# Altium integrated library Integrated_Library1.IntLib: 2483 symbols (part 3 of 13)
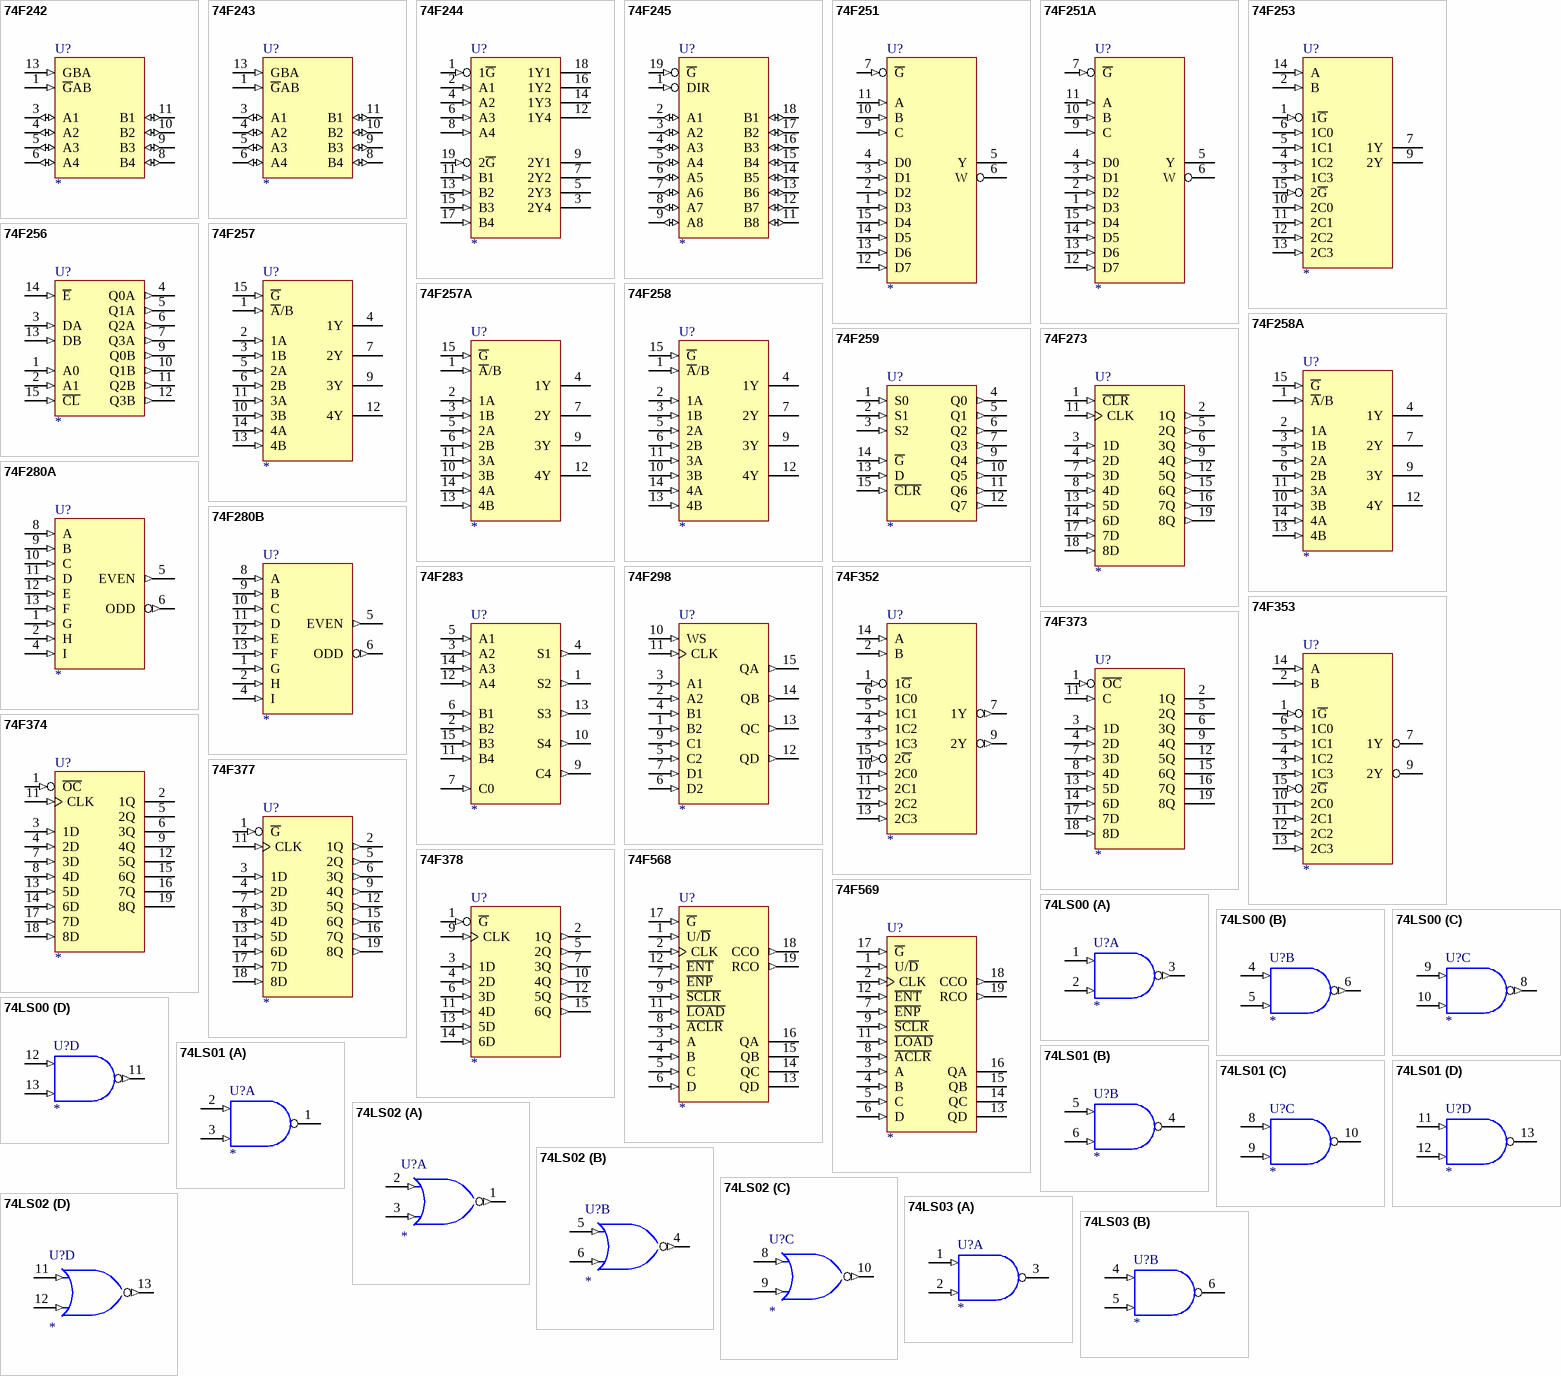
[diagram p110: symbols 74F242 to 74LS03]

## 74F568
designator U?
Synchronous 4-Bit Up/Down Decade Counter with 3-State Outputs
footprint DIP-20
simulation model 74F568 (SIMCODE)
pins: 1 U/~{D} (in), 2 CLK (in), 3 A (in), 4 B (in), 5 C (in), 6 D (in), 7 ~{ENP} (in), 8 ~{ACLR} (in), 9 ~{SCLR} (in), 10 GND (power) hidden to GND, 11 ~{LOAD} (in), 12 ~{ENT} (in), 13 QD (hiz), 14 QC (hiz), 15 QB (hiz), 16 QA (hiz), 17 ~{G} (in), 18 CCO (out), 19 RCO (out), 20 VCC (power) hidden to VCC
1 alternate drawing of the same symbol

## 74F569
designator U?
Synchronous 4-Bit Up/Down Binary Counter with 3-State Outputs
footprint DIP-20
simulation model 74F569 (SIMCODE)
pins: 1 U/~{D} (in), 2 CLK (in), 3 A (in), 4 B (in), 5 C (in), 6 D (in), 7 ~{ENP} (in), 8 ~{ACLR} (in), 9 ~{SCLR} (in), 10 GND (power) hidden to GND, 11 ~{LOAD} (in), 12 ~{ENT} (in), 13 QD (hiz), 14 QC (hiz), 15 QB (hiz), 16 QA (hiz), 17 ~{G} (in), 18 CCO (out), 19 RCO (out), 20 VCC (power) hidden to VCC
1 alternate drawing of the same symbol

## 74LS00
designator U?
Quad 2-Input Positive-NAND Gate
footprint DIP-14
simulation model 74LS00 (SIMCODE)
part A pins: 1 A (in), 2 B (in), 3 Y (out), 7 GND (power) hidden to GND, 14 VCC (power) hidden to VCC
part B pins: 4 A (in), 5 B (in), 6 Y (out), 7 GND (power) hidden to GND, 14 VCC (power) hidden to VCC
part C pins: 7 GND (power) hidden to GND, 8 Y (out), 9 A (in), 10 B (in), 14 VCC (power) hidden to VCC
part D pins: 7 GND (power) hidden to GND, 11 Y (out), 12 A (in), 13 B (in), 14 VCC (power) hidden to VCC
1 alternate drawing of the same symbol

## 74LS01
designator U?
Quad 2-Input Positive-NAND Gate with Open-Collector Output
footprint DIP-14
simulation model 74LS01 (SIMCODE)
part A pins: 1 Y (oc), 2 A (in), 3 B (in), 7 GND (power) hidden to GND, 14 VCC (power) hidden to VCC
part B pins: 4 Y (oc), 5 A (in), 6 B (in), 7 GND (power) hidden to GND, 14 VCC (power) hidden to VCC
part C pins: 7 GND (power) hidden to GND, 8 A (in), 9 B (in), 10 Y (oc), 14 VCC (power) hidden to VCC
part D pins: 7 GND (power) hidden to GND, 11 A (in), 12 B (in), 13 Y (oc), 14 VCC (power) hidden to VCC
1 alternate drawing of the same symbol

## 74LS02
designator U?
Quad 2-Input NOR Gate
footprint DIP-14
simulation model 74LS02 (SIMCODE)
part A pins: 1 Y (out), 2 A (in), 3 B (in), 7 GND (power) hidden to GND, 14 VCC (power) hidden to VCC
part B pins: 4 Y (out), 5 A (in), 6 B (in), 7 GND (power) hidden to GND, 14 VCC (power) hidden to VCC
part C pins: 7 GND (power) hidden to GND, 8 A (in), 9 B (in), 10 Y (out), 14 VCC (power) hidden to VCC
part D pins: 7 GND (power) hidden to GND, 11 A (in), 12 B (in), 13 Y (out), 14 VCC (power) hidden to VCC
1 alternate drawing of the same symbol

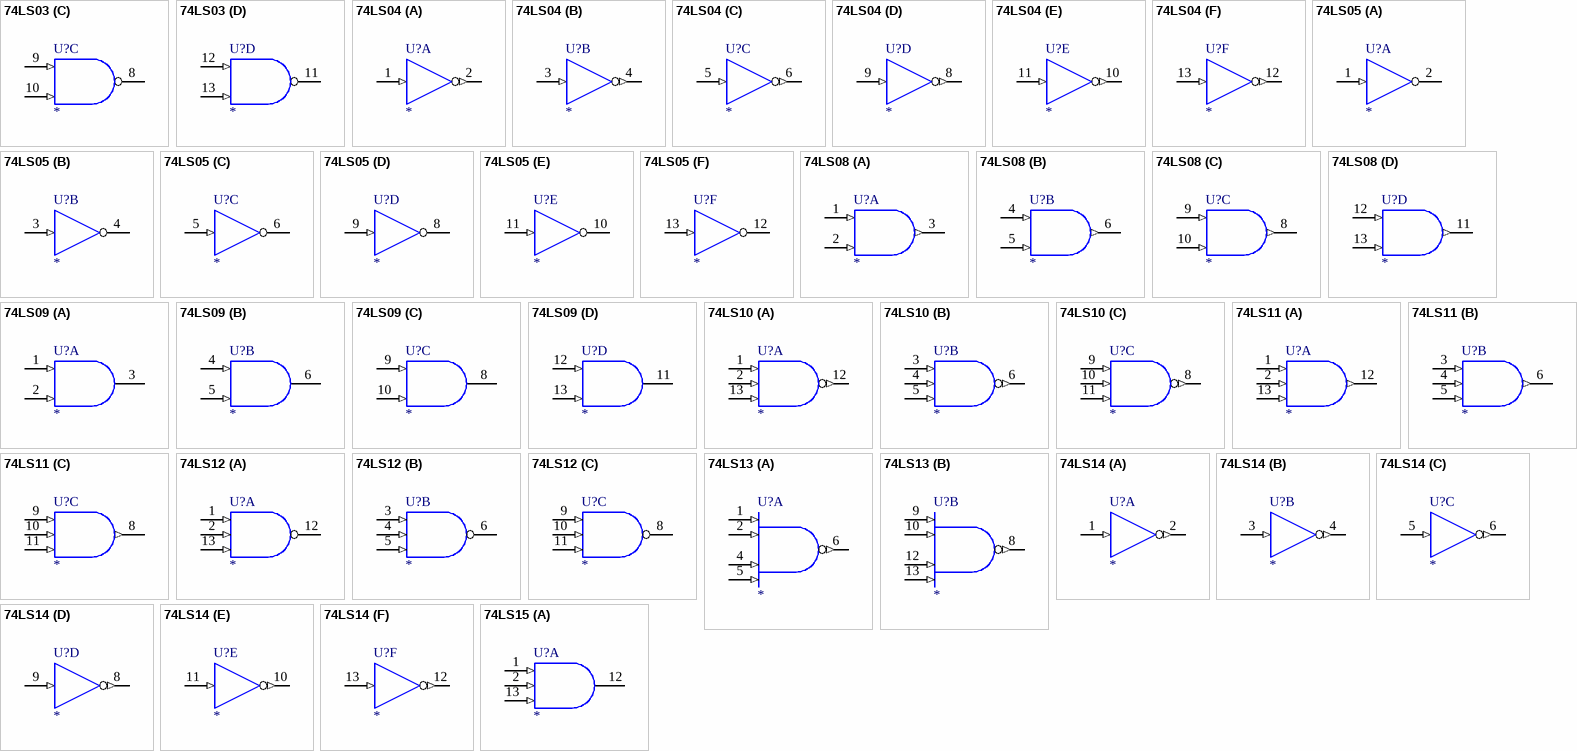
[diagram p24: symbols 74LS03 to 74LS15]

## 74LS03
designator U?
Quad 2-Input Positive-NAND Gate with Open-Collector Output
footprint DIP-14
simulation model 74LS03 (SIMCODE)
part A pins: 1 A (in), 2 B (in), 3 Y (oc), 7 GND (power) hidden to GND, 14 VCC (power) hidden to VCC
part B pins: 4 A (in), 5 B (in), 6 Y (oc), 7 GND (power) hidden to GND, 14 VCC (power) hidden to VCC
part C pins: 7 GND (power) hidden to GND, 8 Y (oc), 9 A (in), 10 B (in), 14 VCC (power) hidden to VCC
part D pins: 7 GND (power) hidden to GND, 11 Y (oc), 12 A (in), 13 B (in), 14 VCC (power) hidden to VCC
1 alternate drawing of the same symbol

## 74LS04
designator U?
Hex Inverter
footprint DIP-14
simulation model 74LS04 (SIMCODE)
part A pins: 1 A (in), 2 Y (out), 7 GND (power) hidden to GND, 14 VCC (power) hidden to VCC
part B pins: 3 A (in), 4 Y (out), 7 GND (power) hidden to GND, 14 VCC (power) hidden to VCC
part C pins: 5 A (in), 6 Y (out), 7 GND (power) hidden to GND, 14 VCC (power) hidden to VCC
part D pins: 7 GND (power) hidden to GND, 8 Y (out), 9 A (in), 14 VCC (power) hidden to VCC
part E pins: 7 GND (power) hidden to GND, 10 Y (out), 11 A (in), 14 VCC (power) hidden to VCC
part F pins: 7 GND (power) hidden to GND, 12 Y (out), 13 A (in), 14 VCC (power) hidden to VCC
1 alternate drawing of the same symbol

## 74LS05
designator U?
Hex Inverter with Open-Collector Output
footprint DIP-14
simulation model 74LS05 (SIMCODE)
part A pins: 1 A (in), 2 Y (oc), 7 GND (power) hidden to GND, 14 VCC (power) hidden to VCC
part B pins: 3 A (in), 4 Y (oc), 7 GND (power) hidden to GND, 14 VCC (power) hidden to VCC
part C pins: 5 A (in), 6 Y (oc), 7 GND (power) hidden to GND, 14 VCC (power) hidden to VCC
part D pins: 7 GND (power) hidden to GND, 8 Y (oc), 9 A (in), 14 VCC (power) hidden to VCC
part E pins: 7 GND (power) hidden to GND, 10 Y (oc), 11 A (in), 14 VCC (power) hidden to VCC
part F pins: 7 GND (power) hidden to GND, 12 Y (oc), 13 A (in), 14 VCC (power) hidden to VCC
2 alternate drawings of the same symbol

## 74LS08
designator U?
Quad 2-Input Positive-AND Gate
footprint DIP-14
simulation model 74LS08 (SIMCODE)
part A pins: 1 A (in), 2 B (in), 3 Y (out), 7 GND (power) hidden to GND, 14 VCC (power) hidden to VCC
part B pins: 4 A (in), 5 B (in), 6 Y (out), 7 GND (power) hidden to GND, 14 VCC (power) hidden to VCC
part C pins: 7 GND (power) hidden to GND, 8 Y (out), 9 A (in), 10 B (in), 14 VCC (power) hidden to VCC
part D pins: 7 GND (power) hidden to GND, 11 Y (out), 12 A (in), 13 B (in), 14 VCC (power) hidden to VCC
1 alternate drawing of the same symbol

## 74LS09
designator U?
Quad 2-Input Positive-AND Gate with Open-Collector Output
footprint DIP-14
simulation model 74LS09 (SIMCODE)
part A pins: 1 A (in), 2 B (in), 3 Y (oc), 7 GND (power) hidden to GND, 14 VCC (power) hidden to VCC
part B pins: 4 A (in), 5 B (in), 6 Y (oc), 7 GND (power) hidden to GND, 14 VCC (power) hidden to VCC
part C pins: 7 GND (power) hidden to GND, 8 Y (oc), 9 A (in), 10 B (in), 14 VCC (power) hidden to VCC
part D pins: 7 GND (power) hidden to GND, 11 Y (oc), 12 A (in), 13 B (in), 14 VCC (power) hidden to VCC
1 alternate drawing of the same symbol

## 74LS10
designator U?
Triple 3-Input Positive-NAND Gate
footprint DIP-14
simulation model 74LS10 (SIMCODE)
part A pins: 1 A (in), 2 B (in), 7 GND (power) hidden to GND, 12 Y (out), 13 C (in), 14 VCC (power) hidden to VCC
part B pins: 3 A (in), 4 B (in), 5 C (in), 6 Y (out), 7 GND (power) hidden to GND, 14 VCC (power) hidden to VCC
part C pins: 7 GND (power) hidden to GND, 8 Y (out), 9 A (in), 10 B (in), 11 C (in), 14 VCC (power) hidden to VCC
1 alternate drawing of the same symbol

## 74LS11
designator U?
Triple 3-Input Positive-AND Gate
footprint DIP-14
simulation model 74LS11 (SIMCODE)
part A pins: 1 A (in), 2 B (in), 7 GND (power) hidden to GND, 12 Y (out), 13 C (in), 14 VCC (power) hidden to VCC
part B pins: 3 A (in), 4 B (in), 5 C (in), 6 Y (out), 7 GND (power) hidden to GND, 14 VCC (power) hidden to VCC
part C pins: 7 GND (power) hidden to GND, 8 Y (out), 9 A (in), 10 B (in), 11 C (in), 14 VCC (power) hidden to VCC
1 alternate drawing of the same symbol

## 74LS12
designator U?
Triple 3-Input Positive-NAND Gate with Open-Collector Output
footprint DIP-14
simulation model 74LS12 (SIMCODE)
part A pins: 1 A (in), 2 B (in), 7 GND (power) hidden to GND, 12 Y (oc), 13 C (in), 14 VCC (power) hidden to VCC
part B pins: 3 A (in), 4 B (in), 5 C (in), 6 Y (oc), 7 GND (power) hidden to GND, 14 VCC (power) hidden to VCC
part C pins: 7 GND (power) hidden to GND, 8 Y (oc), 9 A (in), 10 B (in), 11 C (in), 14 VCC (power) hidden to VCC
1 alternate drawing of the same symbol

## 74LS13
designator U?
Dual 4-Input Positive-NAND Schmitt-Trigger
footprint DIP-14
simulation model 74LS13 (SIMCODE)
part A pins: 1 A (in), 2 B (in), 4 C (in), 5 D (in), 6 Y (out), 7 GND (power) hidden to GND, 14 VCC (power) hidden to VCC
part B pins: 7 GND (power) hidden to GND, 8 Y (out), 9 A (in), 10 B (in), 12 C (in), 13 D (in), 14 VCC (power) hidden to VCC
1 alternate drawing of the same symbol

## 74LS14
designator U?
Hex Schmitt-Trigger Inverter
footprint DIP-14
simulation model 74LS14 (SIMCODE)
part A pins: 1 A (in), 2 Y (out), 7 GND (power) hidden to GND, 14 VCC (power) hidden to VCC
part B pins: 3 A (in), 4 Y (out), 7 GND (power) hidden to GND, 14 VCC (power) hidden to VCC
part C pins: 5 A (in), 6 Y (out), 7 GND (power) hidden to GND, 14 VCC (power) hidden to VCC
part D pins: 7 GND (power) hidden to GND, 8 Y (out), 9 A (in), 14 VCC (power) hidden to VCC
part E pins: 7 GND (power) hidden to GND, 10 Y (out), 11 A (in), 14 VCC (power) hidden to VCC
part F pins: 7 GND (power) hidden to GND, 12 Y (out), 13 A (in), 14 VCC (power) hidden to VCC
1 alternate drawing of the same symbol

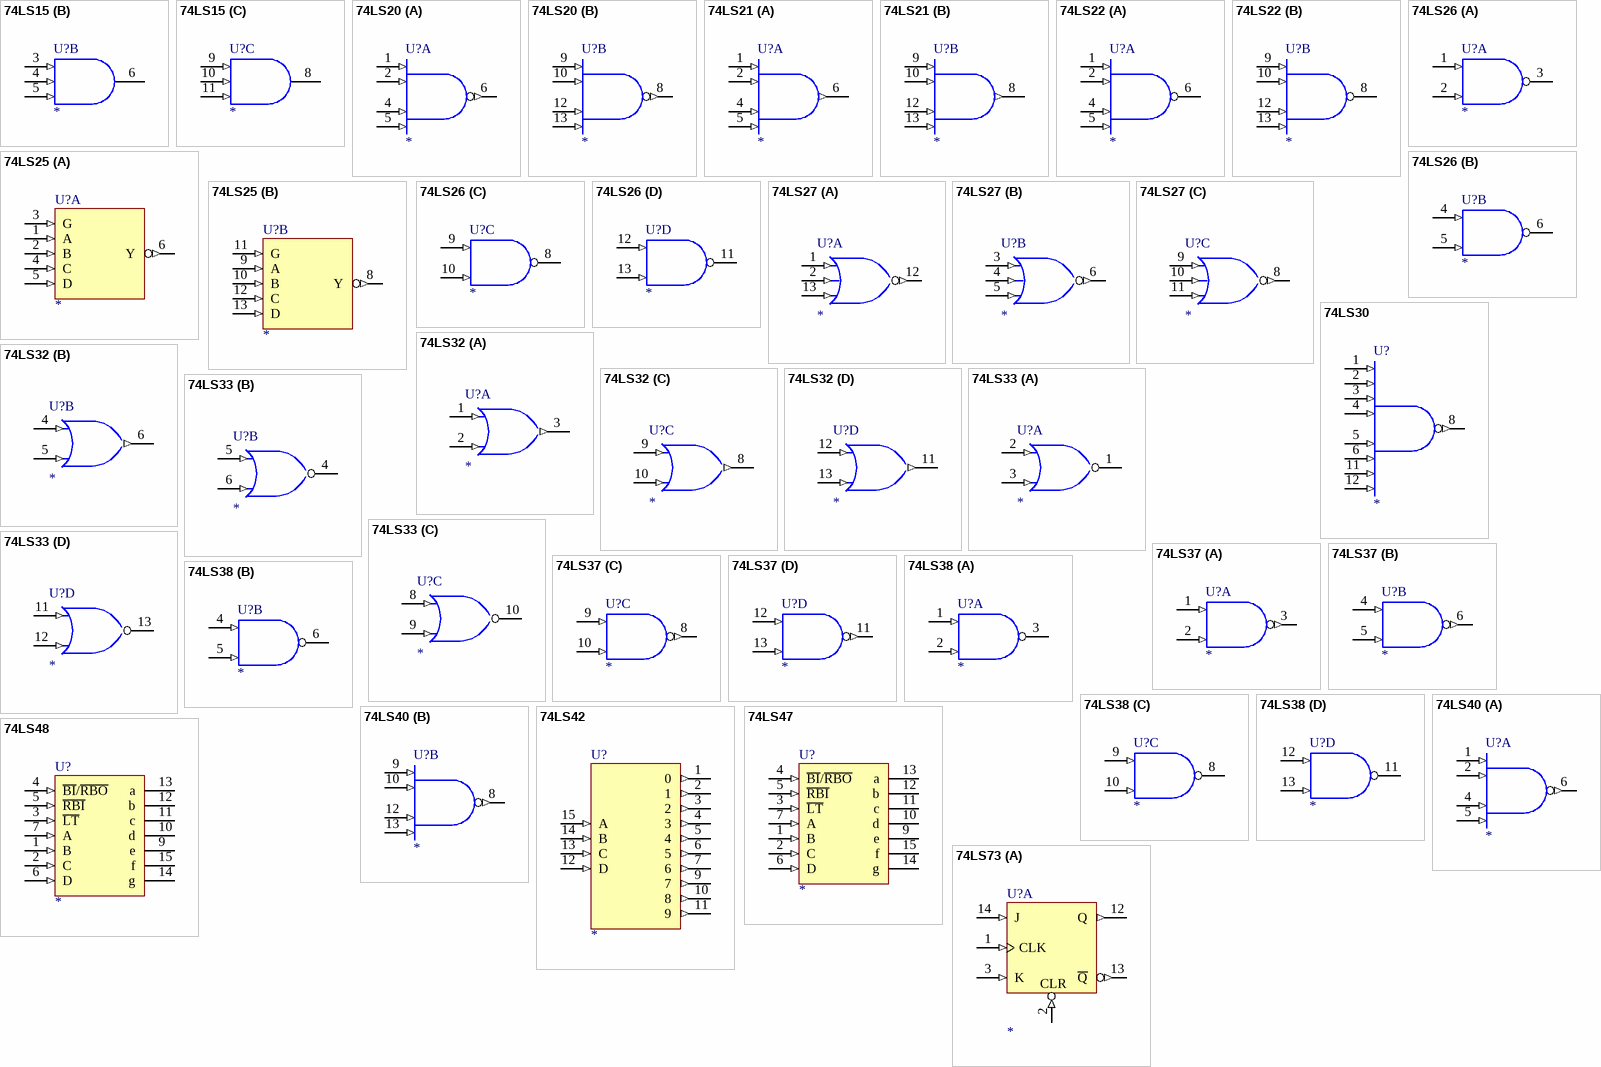
[diagram p25: symbols 74LS15 to 74LS73]

## 74LS15
designator U?
Triple 3-Input Positive-AND Gate with Open-Collector Output
footprint DIP-14
simulation model 74LS15 (SIMCODE)
part A pins: 1 A (in), 2 B (in), 7 GND (power) hidden to GND, 12 Y (oc), 13 C (in), 14 VCC (power) hidden to VCC
part B pins: 3 A (in), 4 B (in), 5 C (in), 6 Y (oc), 7 GND (power) hidden to GND, 14 VCC (power) hidden to VCC
part C pins: 7 GND (power) hidden to GND, 8 Y (oc), 9 A (in), 10 B (in), 11 C (in), 14 VCC (power) hidden to VCC
1 alternate drawing of the same symbol

## 74LS20
designator U?
Dual 4-Input Positive-NAND Gate
footprint DIP-14
simulation model 74LS20 (SIMCODE)
part A pins: 1 A (in), 2 B (in), 4 C (in), 5 D (in), 6 Y (out), 7 GND (power) hidden to GND, 14 VCC (power) hidden to VCC
part B pins: 7 GND (power) hidden to GND, 8 Y (out), 9 A (in), 10 B (in), 12 C (in), 13 D (in), 14 VCC (power) hidden to VCC
2 alternate drawings of the same symbol

## 74LS21
designator U?
Dual 4-Input Positive-AND Gate
footprint DIP-14
simulation model 74LS21 (SIMCODE)
part A pins: 1 A (in), 2 B (in), 4 C (in), 5 D (in), 6 Y (out), 7 GND (power) hidden to GND, 14 VCC (power) hidden to VCC
part B pins: 7 GND (power) hidden to GND, 8 Y (out), 9 A (in), 10 B (in), 12 C (in), 13 D (in), 14 VCC (power) hidden to VCC
2 alternate drawings of the same symbol

## 74LS22
designator U?
Dual 4-Input Positive-NAND Gate with Open-Collector Outputs
footprint DIP-14
simulation model 74LS22 (SIMCODE)
part A pins: 1 A (in), 2 B (in), 4 C (in), 5 D (in), 6 Y (oc), 7 GND (power) hidden to GND, 14 VCC (power) hidden to VCC
part B pins: 7 GND (power) hidden to GND, 8 Y (oc), 9 A (in), 10 B (in), 12 C (in), 13 D (in), 14 VCC (power) hidden to VCC
2 alternate drawings of the same symbol

## 74LS25
designator U?
Dual 4-Input NOR Gate with Strobe
footprint DIP-14
simulation model 74LS25 (SIMCODE)
part A pins: 1 A (in), 2 B (in), 3 G (in), 4 C (in), 5 D (in), 6 Y (out), 7 GND (power) hidden to GND, 14 VCC (power) hidden to VCC
part B pins: 7 GND (power) hidden to GND, 8 Y (out), 9 A (in), 10 B (in), 11 G (in), 12 C (in), 13 D (in), 14 VCC (power) hidden to VCC
1 alternate drawing of the same symbol

## 74LS26
designator U?
High-Voltage Interface Positive-NAND Gate
footprint DIP-14
simulation model 74LS26 (SIMCODE)
part A pins: 1 A (in), 2 B (in), 3 Y (oc), 7 GND (power) hidden to GND, 14 VCC (power) hidden to VCC
part B pins: 4 A (in), 5 B (in), 6 Y (oc), 7 GND (power) hidden to GND, 14 VCC (power) hidden to VCC
part C pins: 7 GND (power) hidden to GND, 8 Y (oc), 9 A (in), 10 B (in), 14 VCC (power) hidden to VCC
part D pins: 7 GND (power) hidden to GND, 11 Y (oc), 12 A (in), 13 B (in), 14 VCC (power) hidden to VCC
1 alternate drawing of the same symbol

## 74LS27
designator U?
Triple 3-Input Positive-NOR Gate
footprint DIP-14
simulation model 74LS27 (SIMCODE)
part A pins: 1 A (in), 2 B (in), 7 GND (power) hidden to GND, 12 Y (out), 13 C (in), 14 VCC (power) hidden to VCC
part B pins: 3 A (in), 4 B (in), 5 C (in), 6 Y (out), 7 GND (power) hidden to GND, 14 VCC (power) hidden to VCC
part C pins: 7 GND (power) hidden to GND, 8 Y (out), 9 A (in), 10 B (in), 11 C (in), 14 VCC (power) hidden to VCC
1 alternate drawing of the same symbol

## 74LS30
designator U?
8-Input Positive-NAND Gate
footprint DIP-14
simulation model 74LS30 (SIMCODE)
pins: 1 A (in), 2 B (in), 3 C (in), 4 D (in), 5 E (in), 6 F (in), 7 GND (power) hidden to GND, 8 Y (out), 11 G (in), 12 H (in), 14 VCC (power) hidden to VCC
1 alternate drawing of the same symbol

## 74LS32
designator U?
Quad 2-Input Positive-OR Gate
footprint DIP-14
simulation model 74LS32 (SIMCODE)
part A pins: 1 A (in), 2 B (in), 3 Y (out), 7 GND (power) hidden to GND, 14 VCC (power) hidden to VCC
part B pins: 4 A (in), 5 B (in), 6 Y (out), 7 GND (power) hidden to GND, 14 VCC (power) hidden to VCC
part C pins: 7 GND (power) hidden to GND, 8 Y (out), 9 A (in), 10 B (in), 14 VCC (power) hidden to VCC
part D pins: 7 GND (power) hidden to GND, 11 Y (out), 12 A (in), 13 B (in), 14 VCC (power) hidden to VCC
1 alternate drawing of the same symbol

## 74LS33
designator U?
Quad 2-Input Positive-NOR Buffer with Open-Collector Output
footprint DIP-14
simulation model 74LS33 (SIMCODE)
part A pins: 1 Y (oc), 2 A (in), 3 B (in), 7 GND (power) hidden to GND, 14 VCC (power) hidden to VCC
part B pins: 4 Y (oc), 5 A (in), 6 B (in), 7 GND (power) hidden to GND, 14 VCC (power) hidden to VCC
part C pins: 7 GND (power) hidden to GND, 8 A (in), 9 B (in), 10 Y (oc), 14 VCC (power) hidden to VCC
part D pins: 7 GND (power) hidden to GND, 11 A (in), 12 B (in), 13 Y (oc), 14 VCC (power) hidden to VCC
1 alternate drawing of the same symbol

## 74LS37
designator U?
Quad 2-Input Positive-NAND Buffer
footprint DIP-14
simulation model 74LS37 (SIMCODE)
part A pins: 1 A (in), 2 B (in), 3 Y (out), 7 GND (power) hidden to GND, 14 VCC (power) hidden to VCC
part B pins: 4 A (in), 5 B (in), 6 Y (out), 7 GND (power) hidden to GND, 14 VCC (power) hidden to VCC
part C pins: 7 GND (power) hidden to GND, 8 Y (out), 9 A (in), 10 B (in), 14 VCC (power) hidden to VCC
part D pins: 7 GND (power) hidden to GND, 11 Y (out), 12 A (in), 13 B (in), 14 VCC (power) hidden to VCC
1 alternate drawing of the same symbol

## 74LS38
designator U?
Quad 2-Input Positive-NAND Buffer with Open-Collector Output
footprint DIP-14
simulation model 74LS38 (SIMCODE)
part A pins: 1 A (in), 2 B (in), 3 Y (oc), 7 GND (power) hidden to GND, 14 VCC (power) hidden to VCC
part B pins: 4 A (in), 5 B (in), 6 Y (oc), 7 GND (power) hidden to GND, 14 VCC (power) hidden to VCC
part C pins: 7 GND (power) hidden to GND, 8 Y (oc), 9 A (in), 10 B (in), 14 VCC (power) hidden to VCC
part D pins: 7 GND (power) hidden to GND, 11 Y (oc), 12 A (in), 13 B (in), 14 VCC (power) hidden to VCC
1 alternate drawing of the same symbol

## 74LS40
designator U?
Dual 4-Input Positive-NAND Buffer
footprint DIP-14
simulation model 74LS40 (SIMCODE)
part A pins: 1 A (in), 2 B (in), 4 C (in), 5 D (in), 6 Y (out), 7 GND (power) hidden to GND, 14 VCC (power) hidden to VCC
part B pins: 7 GND (power) hidden to GND, 8 Y (out), 9 A (in), 10 B (in), 12 C (in), 13 D (in), 14 VCC (power) hidden to VCC
2 alternate drawings of the same symbol

## 74LS42
designator U?
4-Line BCD to 10-Line Decimal Decoder
footprint DIP-16
simulation model 74LS42 (SIMCODE)
pins: 1 0 (out), 2 1 (out), 3 2 (out), 4 3 (out), 5 4 (out), 6 5 (out), 7 6 (out), 8 GND (power) hidden to GND, 9 7 (out), 10 8 (out), 11 9 (out), 12 D (in), 13 C (in), 14 B (in), 15 A (in), 16 VCC (power) hidden to VCC
1 alternate drawing of the same symbol

## 74LS47
designator U?
BCD-to-Seven-Segment Decoder/Driver
footprint DIP-16
simulation model 74LS47 (SIMCODE)
pins: 1 B (in), 2 C (in), 3 ~{LT} (in), 4 ~{BI}/~{RBO} (in), 5 ~{RBI} (in), 6 D (in), 7 A (in), 8 GND (power) hidden to GND, 9 e (oc), 10 d (oc), 11 c (oc), 12 b (oc), 13 a (oc), 14 g (oc), 15 f (oc), 16 VCC (power) hidden to VCC
1 alternate drawing of the same symbol

## 74LS48
designator U?
BCD-to-Seven-Segment Decoder/Driver
footprint DIP-16
simulation model 74LS48 (SIMCODE)
pins: 1 B (in), 2 C (in), 3 ~{LT} (in), 4 ~{BI}/~{RBO} (in), 5 ~{RBI} (in), 6 D (in), 7 A (in), 8 GND (power) hidden to GND, 9 e (oc), 10 d (oc), 11 c (oc), 12 b (oc), 13 a (oc), 14 g (oc), 15 f (oc), 16 VCC (power) hidden to VCC
1 alternate drawing of the same symbol

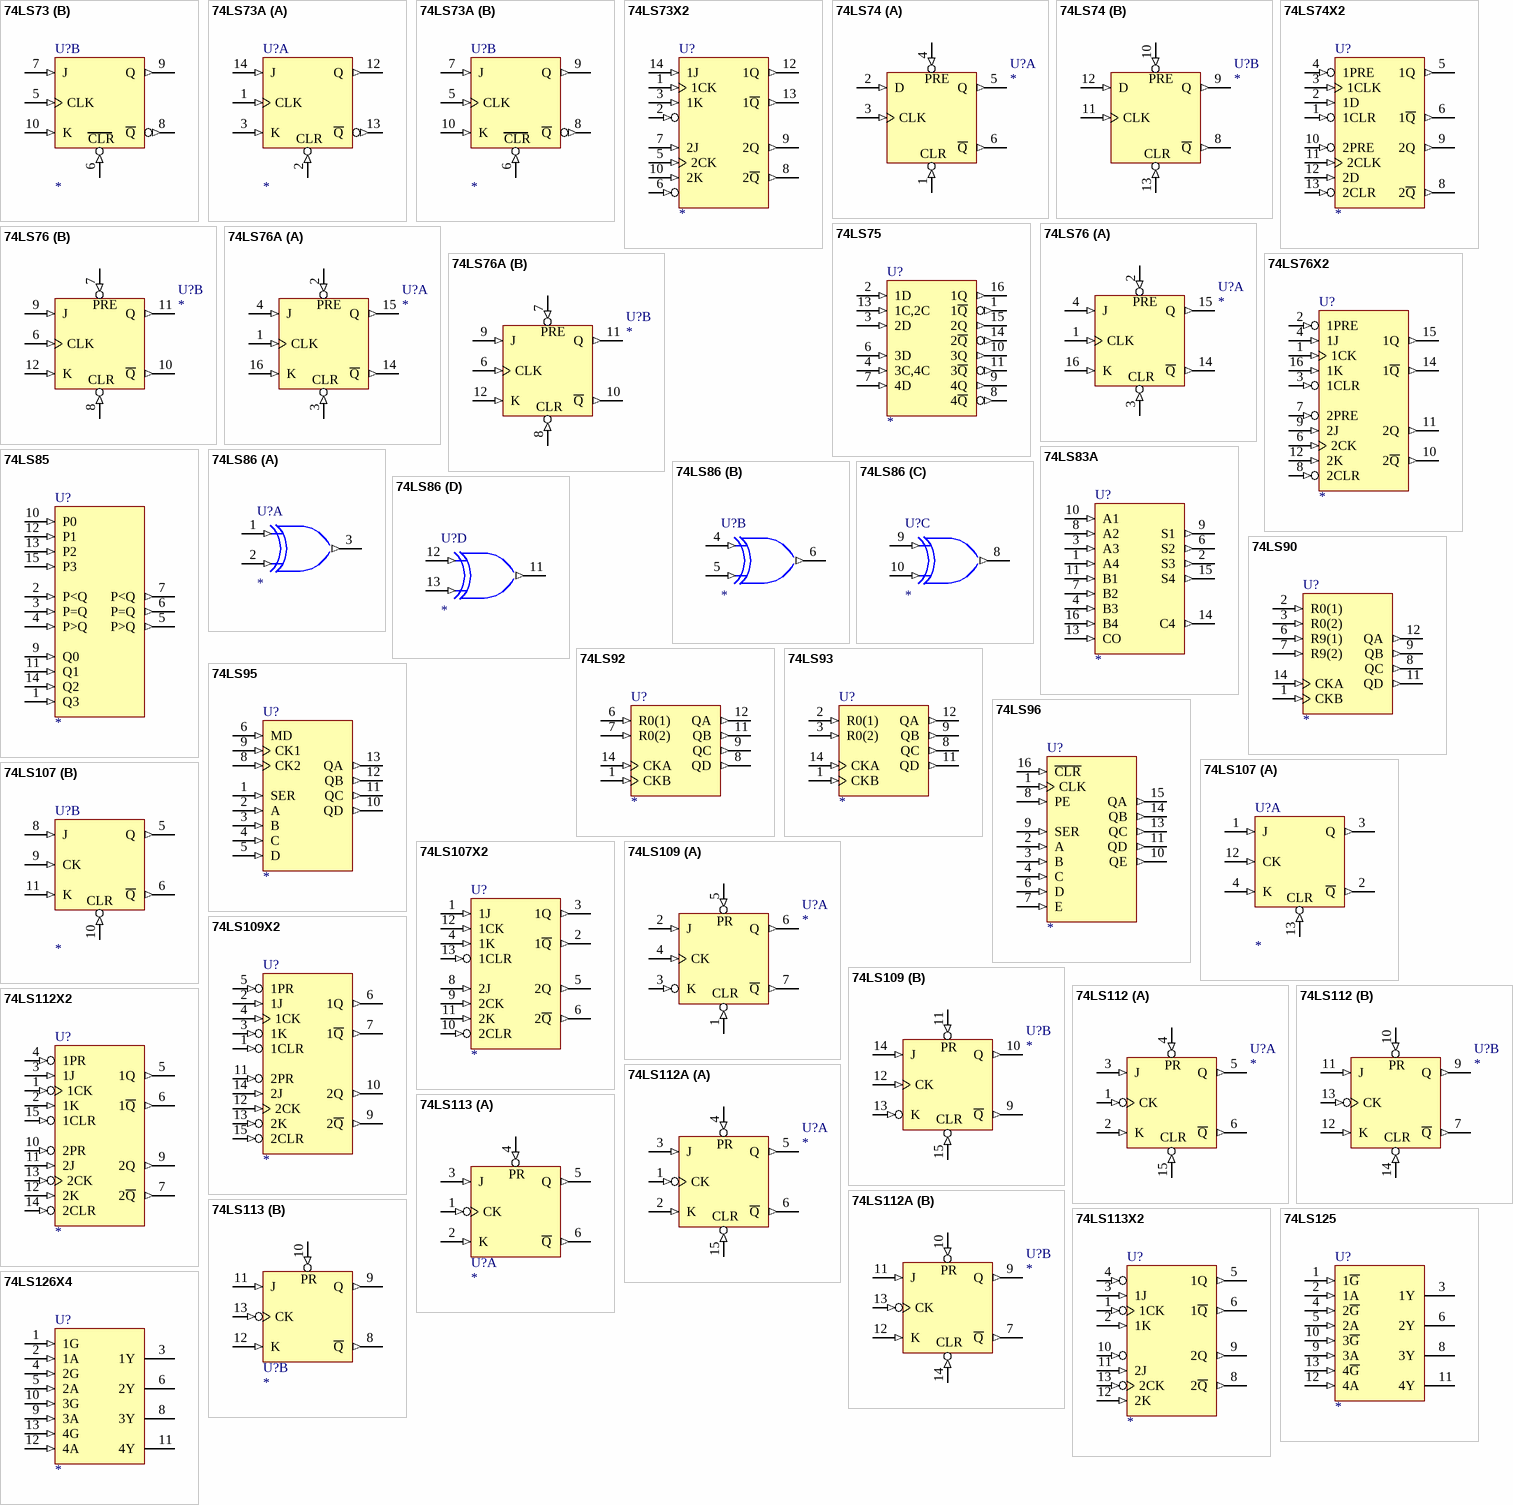
[diagram p26: symbols 74LS73 to 74LS126X4]

## 74LS73
designator U?
Dual J-K Flip-Flop with Clear
footprint DIP-14
simulation model 74LS73 (SIMCODE)
part A pins: 1 CLK (in), 2 ~{CLR} (in), 3 K (in), 4 VCC (power) hidden to VCC, 11 GND (power) hidden to GND, 12 Q (out), 13 ~{Q} (out), 14 J (in)
part B pins: 4 VCC (power) hidden to VCC, 5 CLK (in), 6 ~{CLR} (in), 7 J (in), 8 ~{Q} (out), 9 Q (out), 10 K (in), 11 GND (power) hidden to GND
1 alternate drawing of the same symbol
part A text: CLR
part B text: CLR

## 74LS73A
designator U?
Dual J-K Flip-Flop with Clear
footprint DIP-14
simulation model 74LS73A (SIMCODE)
part A pins: 1 CLK (in), 2 ~{CLR} (in), 3 K (in), 4 VCC (power) hidden to VCC, 11 GND (power) hidden to GND, 12 Q (out), 13 ~{Q} (out), 14 J (in)
part B pins: 4 VCC (power) hidden to VCC, 5 CLK (in), 6 ~{CLR} (in), 7 J (in), 8 ~{Q} (out), 9 Q (out), 10 K (in), 11 GND (power) hidden to GND
1 alternate drawing of the same symbol
part A text: CLR
part B text: CLR

## 74LS73X2
designator U?
Dual J-K Flip-Flop with Clear
footprint DIP-14
simulation model 74LS73X2 (SIMCODE)
pins: 1 1CK (in), 2 1CLR (in), 3 1K (in), 4 VCC (power) hidden to VCC, 5 2CK (in), 6 2CLR (in), 7 2J (in), 8 2~{Q} (out), 9 2Q (out), 10 2K (in), 11 GND (power) hidden to GND, 12 1Q (out), 13 1~{Q} (out), 14 1J (in)
1 alternate drawing of the same symbol

## 74LS74
designator U?
Dual D-Type Positive-Edge-Triggered Flip-Flop with Clear and Preset
footprint DIP-14
simulation model 74LS74 (SIMCODE)
part A pins: 1 ~{CLR} (in), 2 D (in), 3 CLK (in), 4 ~{PRE} (in), 5 Q (out), 6 ~{Q} (out), 7 GND (power) hidden to GND, 14 VCC (power) hidden to VCC
part B pins: 7 GND (power) hidden to GND, 8 ~{Q} (out), 9 Q (out), 10 ~{PRE} (in), 11 CLK (in), 12 D (in), 13 ~{CLR} (in), 14 VCC (power) hidden to VCC
1 alternate drawing of the same symbol
part A text: PRE; CLR
part B text: PRE; CLR

## 74LS74X2
designator U?
Dual D-Type Positive-Edge-Triggered Flip-Flop with Clear and Preset
footprint DIP-14
simulation model 74LS74X2 (SIMCODE)
pins: 1 1CLR (in), 2 1D (in), 3 1CLK (in), 4 1PRE (in), 5 1Q (out), 6 1~{Q} (out), 7 GND (power) hidden to GND, 8 2~{Q} (out), 9 2Q (out), 10 2PRE (in), 11 2CLK (in), 12 2D (in), 13 2CLR (in), 14 VCC (power) hidden to VCC
1 alternate drawing of the same symbol

## 74LS75
designator U?
4-Bit Bistable Latch
footprint DIP-16
simulation model 74LS75 (SIMCODE)
pins: 1 1~{Q} (out), 2 1D (in), 3 2D (in), 4 3C,4C (in), 5 VCC (power) hidden to VCC, 6 3D (in), 7 4D (in), 8 4~{Q} (out), 9 4Q (out), 10 3Q (out), 11 3~{Q} (out), 12 GND (power) hidden to GND, 13 1C,2C (in), 14 2~{Q} (out), 15 2Q (out), 16 1Q (out)
1 alternate drawing of the same symbol

## 74LS76
designator U?
Dual J-K Flip-Flop with Clear and Preset
footprint DIP-16
simulation model 74LS76 (SIMCODE)
part A pins: 1 CLK (in), 2 ~{PRE} (in), 3 ~{CLR} (in), 4 J (in), 5 VCC (power) hidden to VCC, 13 GND (power) hidden to GND, 14 ~{Q} (out), 15 Q (out), 16 K (in)
part B pins: 5 VCC (power) hidden to VCC, 6 CLK (in), 7 ~{PRE} (in), 8 ~{CLR} (in), 9 J (in), 10 ~{Q} (out), 11 Q (out), 12 K (in), 13 GND (power) hidden to GND
1 alternate drawing of the same symbol
part A text: PRE; CLR
part B text: PRE; CLR

## 74LS76A
designator U?
Dual J-K Flip-Flop with Clear and Preset
footprint DIP-16
simulation model 74LS76A (SIMCODE)
part A pins: 1 CLK (in), 2 ~{PRE} (in), 3 ~{CLR} (in), 4 J (in), 5 VCC (power) hidden to VCC, 13 GND (power) hidden to GND, 14 ~{Q} (out), 15 Q (out), 16 K (in)
part B pins: 5 VCC (power) hidden to VCC, 6 CLK (in), 7 ~{PRE} (in), 8 ~{CLR} (in), 9 J (in), 10 ~{Q} (out), 11 Q (out), 12 K (in), 13 GND (power) hidden to GND
1 alternate drawing of the same symbol
part A text: PRE; CLR
part B text: PRE; CLR

## 74LS76X2
designator U?
Dual J-K Flip-Flop with Clear and Preset
footprint DIP-16
simulation model 74LS76X2 (SIMCODE)
pins: 1 1CK (in), 2 1PRE (in), 3 1CLR (in), 4 1J (in), 5 VCC (power) hidden to VCC, 6 2CK (in), 7 2PRE (in), 8 2CLR (in), 9 2J (in), 10 2~{Q} (out), 11 2Q (out), 12 2K (in), 13 GND (power) hidden to GND, 14 1~{Q} (out), 15 1Q (out), 16 1K (in)
1 alternate drawing of the same symbol

## 74LS83A
designator U?
4-Bit Binary Full Adder with Fast Carry
footprint DIP-16
simulation model 74LS83A (SIMCODE)
pins: 1 A4 (in), 2 S3 (out), 3 A3 (in), 4 B3 (in), 5 VCC (power) hidden to VCC, 6 S2 (out), 7 B2 (in), 8 A2 (in), 9 S1 (out), 10 A1 (in), 11 B1 (in), 12 GND (power) hidden to GND, 13 CO (in), 14 C4 (out), 15 S4 (out), 16 B4 (in)
1 alternate drawing of the same symbol

## 74LS85
designator U?
4-Bit Magnitude Comparator
footprint DIP-16
simulation model 74LS85 (SIMCODE)
pins: 1 Q3 (in), 2 P<Q (in), 3 P=Q (in), 4 P>Q (in), 5 P>Q (out), 6 P=Q (out), 7 P<Q (out), 8 GND (power) hidden to GND, 9 Q0 (in), 10 P0 (in), 11 Q1 (in), 12 P1 (in), 13 P2 (in), 14 Q2 (in), 15 P3 (in), 16 VCC (power) hidden to VCC
1 alternate drawing of the same symbol

## 74LS86
designator U?
Quad Exclusive-OR Gate
footprint DIP-14
simulation model 74LS86 (SIMCODE)
part A pins: 1 A (in), 2 B (in), 3 Y (out), 7 GND (power) hidden to GND, 14 VCC (power) hidden to VCC
part B pins: 4 A (in), 5 B (in), 6 Y (out), 7 GND (power) hidden to GND, 14 VCC (power) hidden to VCC
part C pins: 7 GND (power) hidden to GND, 8 Y (out), 9 A (in), 10 B (in), 14 VCC (power) hidden to VCC
part D pins: 7 GND (power) hidden to GND, 11 Y (out), 12 A (in), 13 B (in), 14 VCC (power) hidden to VCC
1 alternate drawing of the same symbol

## 74LS90
designator U?
Binary Counter
footprint DIP-14
simulation model 74LS90 (SIMCODE)
pins: 1 CKB (in), 2 R0(1) (in), 3 R0(2) (in), 5 VCC (power) hidden to VCC, 6 R9(1) (in), 7 R9(2) (in), 8 QC (out), 9 QB (out), 10 GND (power) hidden to GND, 11 QD (out), 12 QA (out), 14 CKA (in)
1 alternate drawing of the same symbol

## 74LS92
designator U?
Divide-by-Twelve Counter
footprint DIP-14
simulation model 74LS92 (SIMCODE)
pins: 1 CKB (in), 5 VCC (power) hidden to VCC, 6 R0(1) (in), 7 R0(2) (in), 8 QD (out), 9 QC (out), 10 GND (power) hidden to GND, 11 QB (out), 12 QA (out), 14 CKA (in)
1 alternate drawing of the same symbol

## 74LS93
designator U?
4-Bit Binary Counter
footprint DIP-14
simulation model 74LS93 (SIMCODE)
pins: 1 CKB (in), 2 R0(1) (in), 3 R0(2) (in), 5 VCC (power) hidden to VCC, 8 QC (out), 9 QB (out), 10 GND (power) hidden to GND, 11 QD (out), 12 QA (out), 14 CKA (in)
1 alternate drawing of the same symbol

## 74LS95
designator U?
4-Bit Parallel-Access Shift Register
footprint DIP-14
simulation model 74LS95 (SIMCODE)
pins: 1 SER (in), 2 A (in), 3 B (in), 4 C (in), 5 D (in), 6 MD (in), 7 GND (power) hidden to GND, 8 CK2 (in), 9 CK1 (in), 10 QD (out), 11 QC (out), 12 QB (out), 13 QA (out), 14 VCC (power) hidden to VCC
1 alternate drawing of the same symbol

## 74LS96
designator U?
5-Bit Shift Register
footprint DIP-16
simulation model 74LS96 (SIMCODE)
pins: 1 CLK (in), 2 A (in), 3 B (in), 4 C (in), 5 VCC (power) hidden to VCC, 6 D (in), 7 E (in), 8 PE (in), 9 SER (in), 10 QE (out), 11 QD (out), 12 GND (power) hidden to GND, 13 QC (out), 14 QB (out), 15 QA (out), 16 ~{CLR} (in)
1 alternate drawing of the same symbol

## 74LS107
designator U?
Dual J-K Flip-Flops with Clear
footprint DIP-14
simulation model 74LS107 (SIMCODE)
part A pins: 1 J (in), 2 ~{Q} (out), 3 Q (out), 4 K (in), 7 GND (power) hidden to GND, 12 CK (in), 13 CLR (in), 14 VCC (power) hidden to VCC
part B pins: 5 Q (out), 6 ~{Q} (out), 7 GND (power) hidden to GND, 8 J (in), 9 CK (in), 10 CLR (in), 11 K (in), 14 VCC (power) hidden to VCC
1 alternate drawing of the same symbol

## 74LS107X2
designator U?
Dual J-K Flip-Flops with Clear
footprint DIP-14
simulation model 74LS107X2 (SIMCODE)
pins: 1 1J (in), 2 1~{Q} (out), 3 1Q (out), 4 1K (in), 5 2Q (out), 6 2~{Q} (out), 7 GND (power) hidden to GND, 8 2J (in), 9 2CK (in), 10 2CLR (in), 11 2K (in), 12 1CK (in), 13 1CLR (in), 14 VCC (power) hidden to VCC
1 alternate drawing of the same symbol

## 74LS109
designator U?
Dual J-~K Positive-Edge-Triggered Flip Flop with Preset and Clear
footprint DIP-16
simulation model 74LS109 (SIMCODE)
part A pins: 1 CLR (in), 2 J (in), 3 K (in), 4 CK (in), 5 PR (in), 6 Q (out), 7 ~{Q} (out), 8 GND (power) hidden to GND, 16 VCC (power) hidden to VCC
part B pins: 8 GND (power) hidden to GND, 9 ~{Q} (out), 10 Q (out), 11 PR (in), 12 CK (in), 13 K (in), 14 J (in), 15 CLR (in), 16 VCC (power) hidden to VCC
1 alternate drawing of the same symbol

## 74LS109X2
designator U?
Dual J-~K Positive-Edge-Triggered Flip Flop with Preset and Clear
footprint DIP-16
simulation model 74LS109X2 (SIMCODE)
pins: 1 1CLR (in), 2 1J (in), 3 1K (in), 4 1CK (in), 5 1PR (in), 6 1Q (out), 7 1~{Q} (out), 8 GND (power) hidden to GND, 9 2~{Q} (out), 10 2Q (out), 11 2PR (in), 12 2CK (in), 13 2K (in), 14 2J (in), 15 2CLR (in), 16 VCC (power) hidden to VCC
1 alternate drawing of the same symbol

## 74LS112
designator U?
Dual J-K Negative-Edge-Triggered Flip-Flop with Clear and Preset
footprint DIP-16
simulation model 74LS112 (SIMCODE)
part A pins: 1 CK (in), 2 K (in), 3 J (in), 4 PR (in), 5 Q (out), 6 ~{Q} (out), 8 GND (power) hidden to GND, 15 CLR (in), 16 VCC (power) hidden to VCC
part B pins: 7 ~{Q} (out), 8 GND (power) hidden to GND, 9 Q (out), 10 PR (in), 11 J (in), 12 K (in), 13 CK (in), 14 CLR (in), 16 VCC (power) hidden to VCC
1 alternate drawing of the same symbol

## 74LS112A
designator U?
Dual J-K Negative-Edge-Triggered Flip-Flop with Clear and Preset
footprint DIP-16
simulation model 74LS112A (SIMCODE)
part A pins: 1 CK (in), 2 K (in), 3 J (in), 4 PR (in), 5 Q (out), 6 ~{Q} (out), 8 GND (power) hidden to GND, 15 CLR (in), 16 VCC (power) hidden to VCC
part B pins: 7 ~{Q} (out), 8 GND (power) hidden to GND, 9 Q (out), 10 PR (in), 11 J (in), 12 K (in), 13 CK (in), 14 CLR (in), 16 VCC (power) hidden to VCC
1 alternate drawing of the same symbol

## 74LS112X2
designator U?
Dual J-K Negative-Edge-Triggered Flip-Flop with Clear and Preset
footprint DIP-16
simulation model 74LS112X2 (SIMCODE)
pins: 1 1CK (in), 2 1K (in), 3 1J (in), 4 1PR (in), 5 1Q (out), 6 1~{Q} (out), 7 2~{Q} (out), 8 GND (power) hidden to GND, 9 2Q (out), 10 2PR (in), 11 2J (in), 12 2K (in), 13 2CK (in), 14 2CLR (in), 15 1CLR (in), 16 VCC (power) hidden to VCC
1 alternate drawing of the same symbol

## 74LS113
designator U?
Dual J-K Negative-Edge-Triggered Flip-Flop with Preset
footprint DIP-14
simulation model 74LS113 (SIMCODE)
part A pins: 1 CK (in), 2 K (in), 3 J (in), 4 PR (in), 5 Q (out), 6 ~{Q} (out), 7 GND (power) hidden to GND, 14 VCC (power) hidden to VCC
part B pins: 7 GND (power) hidden to GND, 8 ~{Q} (out), 9 Q (out), 10 PR (in), 11 J (in), 12 K (in), 13 CK (in), 14 VCC (power) hidden to VCC
1 alternate drawing of the same symbol

## 74LS113X2
designator U?
Dual J-K Negative-Edge-Triggered Flip-Flop with Preset
footprint DIP-14
simulation model 74LS113X2 (SIMCODE)
pins: 1 1CK (in), 2 1K (in), 3 1J (in), 4 1PR (in), 5 1Q (out), 6 1~{Q} (out), 7 GND (power) hidden to GND, 8 2~{Q} (out), 9 2Q (out), 10 2PR (in), 11 2J (in), 12 2K (in), 13 2CK (in), 14 VCC (power) hidden to VCC
1 alternate drawing of the same symbol

## 74LS125
designator U?
Quad Bus Buffer Gate with 3-State Output
footprint DIP-14
simulation model 74LS125 (SIMCODE)
pins: 1 1~{G} (in), 2 1A (in), 3 1Y (hiz), 4 2~{G} (in), 5 2A (in), 6 2Y (hiz), 7 GND (power) hidden to GND, 8 3Y (hiz), 9 3A (in), 10 3~{G} (in), 11 4Y (hiz), 12 4A (in), 13 4~{G} (in), 14 VCC (power) hidden to VCC
1 alternate drawing of the same symbol

## 74LS126X4
designator U?
Quad Bus Buffer Gate with 3-State Output
footprint DIP-14
simulation model 74LS126X4 (SIMCODE)
pins: 1 1G (in), 2 1A (in), 3 1Y (hiz), 4 2G (in), 5 2A (in), 6 2Y (hiz), 7 GND (power) hidden to GND, 8 3Y (hiz), 9 3A (in), 10 3G (in), 11 4Y (hiz), 12 4A (in), 13 4G (in), 14 VCC (power) hidden to VCC
1 alternate drawing of the same symbol

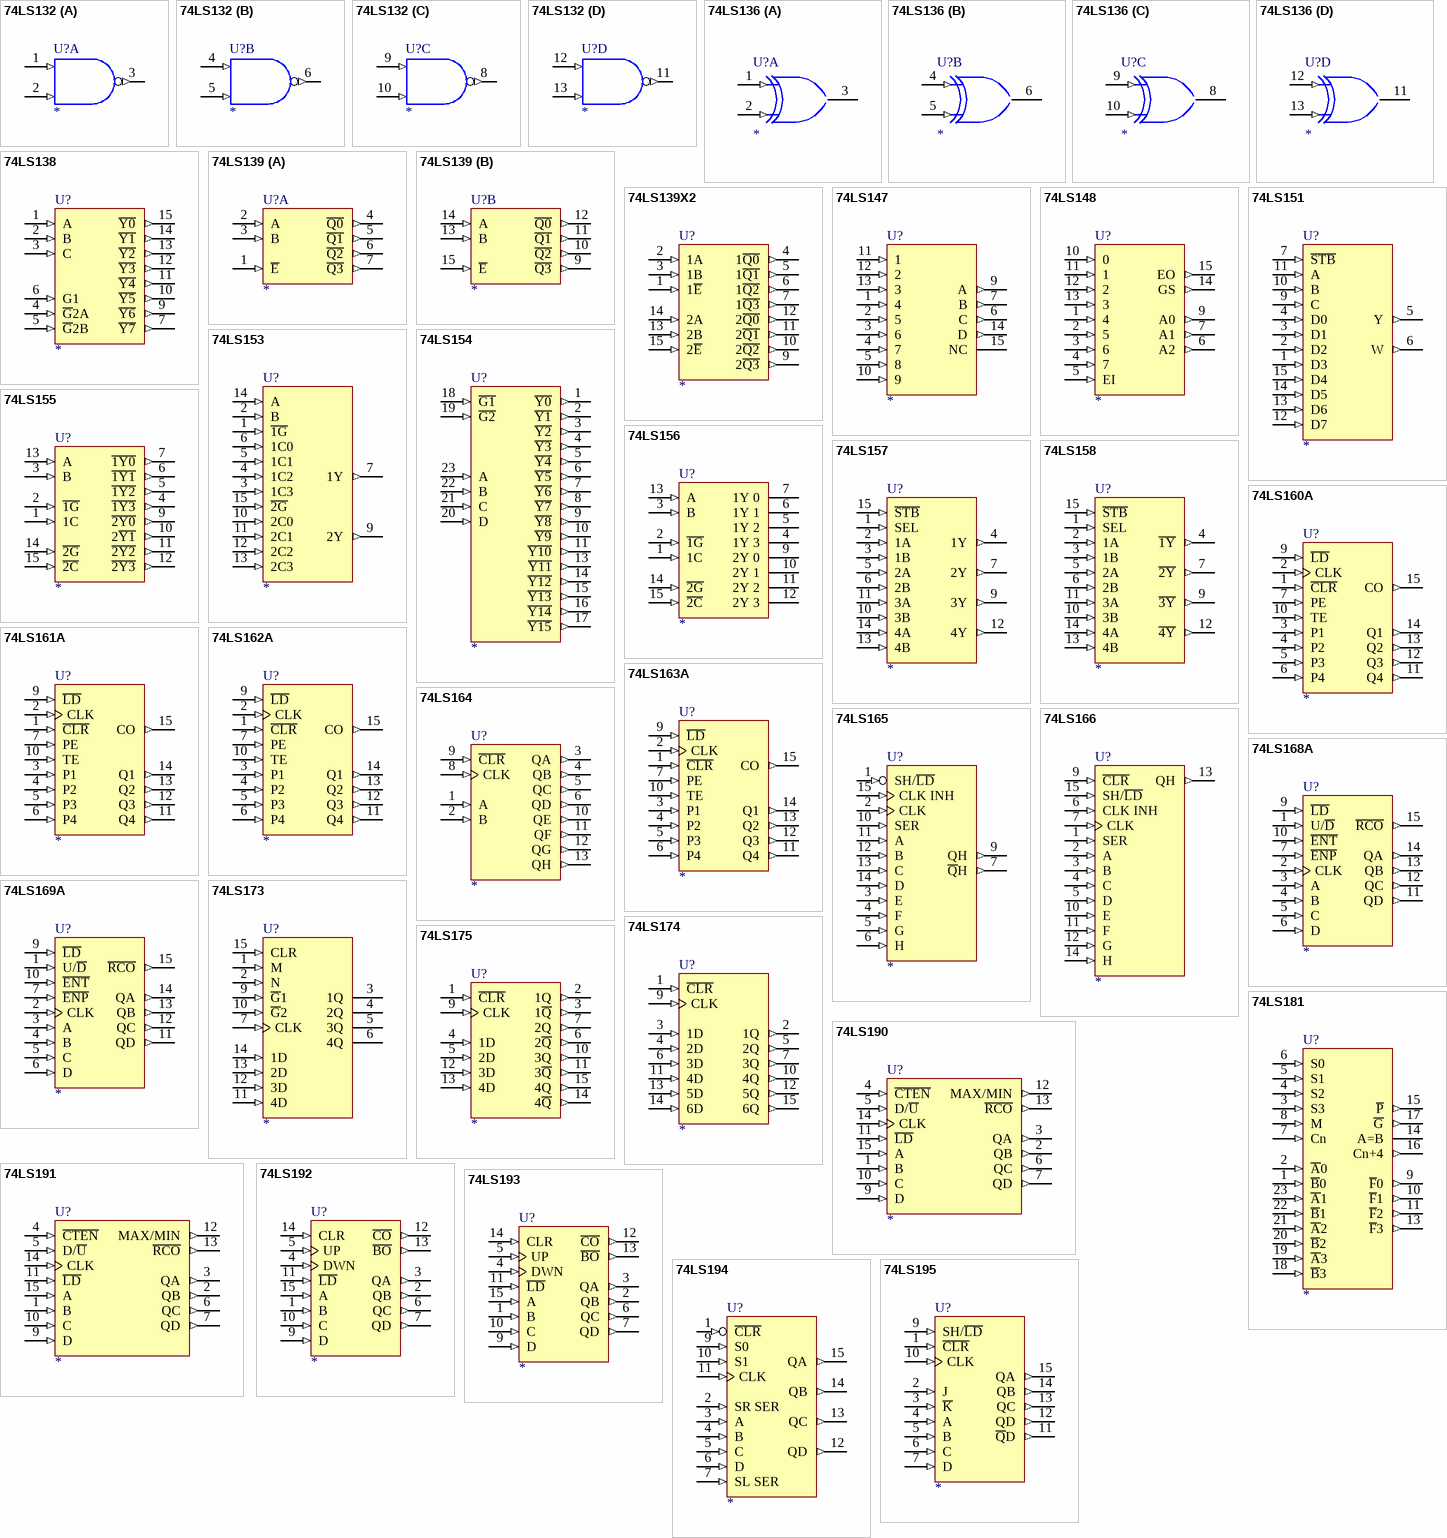
[diagram p27: symbols 74LS132 to 74LS195]

## 74LS132
designator U?
Quad Positive-NAND Gate with Schmitt-Trigger Input
footprint DIP-14
simulation model 74LS132 (SIMCODE)
part A pins: 1 A (in), 2 B (in), 3 Y (out), 7 GND (power) hidden to GND, 14 VCC (power) hidden to VCC
part B pins: 4 A (in), 5 B (in), 6 Y (out), 7 GND (power) hidden to GND, 14 VCC (power) hidden to VCC
part C pins: 7 GND (power) hidden to GND, 8 Y (out), 9 A (in), 10 B (in), 14 VCC (power) hidden to VCC
part D pins: 7 GND (power) hidden to GND, 11 Y (out), 12 A (in), 13 B (in), 14 VCC (power) hidden to VCC
1 alternate drawing of the same symbol

## 74LS136
designator U?
Quad 2-Input Exclusive-OR Gate with Open-Collector Output
footprint DIP-14
simulation model 74LS136 (SIMCODE)
part A pins: 1 A (in), 2 B (in), 3 Y (oc), 7 GND (power) hidden to GND, 14 VCC (power) hidden to VCC
part B pins: 4 A (in), 5 B (in), 6 Y (oc), 7 GND (power) hidden to GND, 14 VCC (power) hidden to VCC
part C pins: 7 GND (power) hidden to GND, 8 Y (oc), 9 A (in), 10 B (in), 14 VCC (power) hidden to VCC
part D pins: 7 GND (power) hidden to GND, 11 Y (oc), 12 A (in), 13 B (in), 14 VCC (power) hidden to VCC
1 alternate drawing of the same symbol

## 74LS138
designator U?
3-Line to 8-Line Decoder/Demultiplexer
footprint DIP-16
simulation model 74LS138 (SIMCODE)
pins: 1 A (in), 2 B (in), 3 C (in), 4 ~{G}2A (in), 5 ~{G}2B (in), 6 G1 (in), 7 ~{Y7} (out), 8 GND (power) hidden to GND, 9 ~{Y6} (out), 10 ~{Y5} (out), 11 ~{Y4} (out), 12 ~{Y3} (out), 13 ~{Y2} (out), 14 ~{Y1} (out), 15 ~{Y0} (out), 16 VCC (power) hidden to VCC
1 alternate drawing of the same symbol

## 74LS139
designator U?
Dual 2-Line to 4-Line Decoder/Demultiplexer
footprint DIP-16
simulation model 74LS139 (SIMCODE)
part A pins: 1 ~{E} (in), 2 A (in), 3 B (in), 4 ~{Q0} (out), 5 ~{Q1} (out), 6 ~{Q2} (out), 7 ~{Q3} (out), 8 GND (power) hidden to GND, 16 VCC (power) hidden to VCC
part B pins: 8 GND (power) hidden to GND, 9 ~{Q3} (out), 10 ~{Q2} (out), 11 ~{Q1} (out), 12 ~{Q0} (out), 13 B (in), 14 A (in), 15 ~{E} (in), 16 VCC (power) hidden to VCC
1 alternate drawing of the same symbol

## 74LS139X2
designator U?
Dual 2-Line to 4-Line Decoder/Demultiplexer
footprint DIP-16
simulation model 74LS139X2 (SIMCODE)
pins: 1 1~{E} (in), 2 1A (in), 3 1B (in), 4 1~{Q0} (out), 5 1~{Q1} (out), 6 1~{Q2} (out), 7 1~{Q3} (out), 8 GND (power) hidden to GND, 9 2~{Q3} (out), 10 2~{Q2} (out), 11 2~{Q1} (out), 12 2~{Q0} (out), 13 2B (in), 14 2A (in), 15 2~{E} (in), 16 VCC (power) hidden to VCC
1 alternate drawing of the same symbol

## 74LS147
designator U?
10-Line to 4-Line Priority Encoder
footprint DIP-16
simulation model 74LS147 (SIMCODE)
pins: 1 4 (in), 2 5 (in), 3 6 (in), 4 7 (in), 5 8 (in), 6 C (out), 7 B (out), 8 GND (power) hidden to GND, 9 A (out), 10 9 (in), 11 1 (in), 12 2 (in), 13 3 (in), 14 D (out), 15 NC, 16 VCC (power) hidden to VCC
1 alternate drawing of the same symbol

## 74LS148
designator U?
8-Line to 3-Line Priority Encoder
footprint DIP-16
simulation model 74LS148 (SIMCODE)
pins: 1 4 (in), 2 5 (in), 3 6 (in), 4 7 (in), 5 EI (in), 6 A2 (out), 7 A1 (out), 8 GND (power) hidden to GND, 9 A0 (out), 10 0 (in), 11 1 (in), 12 2 (in), 13 3 (in), 14 GS (out), 15 EO (out), 16 VCC (power) hidden to VCC
1 alternate drawing of the same symbol

## 74LS151
designator U?
1 of 8 Data Selector/Multiplexer
footprint DIP-16
simulation model 74LS151 (SIMCODE)
pins: 1 D3 (in), 2 D2 (in), 3 D1 (in), 4 D0 (in), 5 Y (out), 6 W (out), 7 ~{STB} (in), 8 GND (power) hidden to GND, 9 C (in), 10 B (in), 11 A (in), 12 D7 (in), 13 D6 (in), 14 D5 (in), 15 D4 (in), 16 VCC (power) hidden to VCC
1 alternate drawing of the same symbol

## 74LS153
designator U?
Dual 4-Line to 1-Line Data Selector/Multiplexer
footprint DIP-16
simulation model 74LS153 (SIMCODE)
pins: 1 ~{1G} (in), 2 B (in), 3 1C3 (in), 4 1C2 (in), 5 1C1 (in), 6 1C0 (in), 7 1Y (out), 8 GND (power) hidden to GND, 9 2Y (out), 10 2C0 (in), 11 2C1 (in), 12 2C2 (in), 13 2C3 (in), 14 A (in), 15 ~{2G} (in), 16 VCC (power) hidden to VCC
1 alternate drawing of the same symbol

## 74LS154
designator U?
4-Line to 16-Line Decoder/Demultiplexer
footprint DIP-24
simulation model 74LS154 (SIMCODE)
pins: 1 ~{Y0} (out), 2 ~{Y1} (out), 3 ~{Y2} (out), 4 ~{Y3} (out), 5 ~{Y4} (out), 6 ~{Y5} (out), 7 ~{Y6} (out), 8 ~{Y7} (out), 9 ~{Y8} (out), 10 ~{Y9} (out), 11 ~{Y10} (out), 12 GND (power) hidden to GND, 13 ~{Y11} (out), 14 ~{Y12} (out), 15 ~{Y13} (out), 16 ~{Y14} (out), 17 ~{Y15} (out), 18 ~{G1} (in), 19 ~{G2} (in), 20 D (in), 21 C (in), 22 B (in), 23 A (in), 24 VCC (power) hidden to VCC
1 alternate drawing of the same symbol

## 74LS155
designator U?
Dual 2-Line to 4-Line Decoder/Demultiplexer
footprint DIP-16
simulation model 74LS155 (SIMCODE)
pins: 1 1C (in), 2 ~{1G} (in), 3 B (in), 4 ~{1Y3} (out), 5 ~{1Y2} (out), 6 ~{1Y1} (out), 7 ~{1Y0} (out), 8 GND (power) hidden to GND, 9 ~{2Y0} (out), 10 2~{Y1} (out), 11 ~{2Y2} (out), 12 ~{2Y3} (out), 13 A (in), 14 ~{2G} (in), 15 ~{2C} (in), 16 VCC (power) hidden to VCC
1 alternate drawing of the same symbol

## 74LS156
designator U?
Dual 2-Line to 4-Line Decoder/Demultiplexer with Open-Collector Outputs
footprint DIP-16
simulation model 74LS156 (SIMCODE)
pins: 1 1C (in), 2 ~{1G} (in), 3 B (in), 4 1Y 3 (oc), 5 1Y 2 (oc), 6 1Y 1 (oc), 7 1Y 0 (oc), 8 GND (power) hidden to GND, 9 2Y 0 (oc), 10 2Y 1 (oc), 11 2Y 2 (oc), 12 2Y 3 (oc), 13 A (in), 14 ~{2G} (in), 15 ~{2C} (in), 16 VCC (power) hidden to VCC
1 alternate drawing of the same symbol

## 74LS157
designator U?
Quad 2-Line to 1-Line Data Selector/Multiplexer
footprint DIP-16
simulation model 74LS157 (SIMCODE)
pins: 1 SEL (in), 2 1A (in), 3 1B (in), 4 1Y (out), 5 2A (in), 6 2B (in), 7 2Y (out), 8 GND (power) hidden to GND, 9 3Y (out), 10 3B (in), 11 3A (in), 12 4Y (out), 13 4B (in), 14 4A (in), 15 ~{STB} (in), 16 VCC (power) hidden to VCC
1 alternate drawing of the same symbol

## 74LS158
designator U?
Quad 2-Line to 1-Line Data Selector/Multiplexer
footprint DIP-16
simulation model 74LS158 (SIMCODE)
pins: 1 SEL (in), 2 1A (in), 3 1B (in), 4 ~{1Y} (out), 5 2A (in), 6 2B (in), 7 ~{2Y} (out), 8 GND (power) hidden to GND, 9 ~{3Y} (out), 10 3B (in), 11 3A (in), 12 ~{4Y} (out), 13 4B (in), 14 4A (in), 15 ~{STB} (in), 16 VCC (power) hidden to VCC
1 alternate drawing of the same symbol

## 74LS160A
designator U?
Synchronous 4-Bit Decade Counter with Direct Clear
footprint DIP-16
simulation model 74LS160A (SIMCODE)
pins: 1 ~{CLR} (in), 2 CLK (in), 3 P1 (in), 4 P2 (in), 5 P3 (in), 6 P4 (in), 7 PE (in), 8 GND (power) hidden to GND, 9 ~{LD} (in), 10 TE (in), 11 Q4 (out), 12 Q3 (out), 13 Q2 (out), 14 Q1 (out), 15 CO (out), 16 VCC (power) hidden to VCC
1 alternate drawing of the same symbol

## 74LS161A
designator U?
Synchronous 4-Bit Binary Counter with Direct Clear
footprint DIP-16
simulation model 74LS161A (SIMCODE)
pins: 1 ~{CLR} (in), 2 CLK (in), 3 P1 (in), 4 P2 (in), 5 P3 (in), 6 P4 (in), 7 PE (in), 8 GND (power) hidden to GND, 9 ~{LD} (in), 10 TE (in), 11 Q4 (out), 12 Q3 (out), 13 Q2 (out), 14 Q1 (out), 15 CO (out), 16 VCC (power) hidden to VCC
1 alternate drawing of the same symbol

## 74LS162A
designator U?
Fully Synchronous 4-Bit Decade Counter
footprint DIP-16
simulation model 74LS162A (SIMCODE)
pins: 1 ~{CLR} (in), 2 CLK (in), 3 P1 (in), 4 P2 (in), 5 P3 (in), 6 P4 (in), 7 PE (in), 8 GND (power) hidden to GND, 9 ~{LD} (in), 10 TE (in), 11 Q4 (out), 12 Q3 (out), 13 Q2 (out), 14 Q1 (out), 15 CO (out), 16 VCC (power) hidden to VCC
1 alternate drawing of the same symbol

## 74LS163A
designator U?
Fully Synchronous 4-Bit Binary Counter
footprint DIP-16
simulation model 74LS163A (SIMCODE)
pins: 1 ~{CLR} (in), 2 CLK (in), 3 P1 (in), 4 P2 (in), 5 P3 (in), 6 P4 (in), 7 PE (in), 8 GND (power) hidden to GND, 9 ~{LD} (in), 10 TE (in), 11 Q4 (out), 12 Q3 (out), 13 Q2 (out), 14 Q1 (out), 15 CO (out), 16 VCC (power) hidden to VCC
1 alternate drawing of the same symbol

## 74LS164
designator U?
8-Bit Parallel-Out Serial Shift Register
footprint DIP-14
simulation model 74LS164 (SIMCODE)
pins: 1 A (in), 2 B (in), 3 QA (out), 4 QB (out), 5 QC (out), 6 QD (out), 7 GND (power) hidden to GND, 8 CLK (in), 9 ~{CLR} (in), 10 QE (out), 11 QF (out), 12 QG (out), 13 QH (out), 14 VCC (power) hidden to VCC
1 alternate drawing of the same symbol

## 74LS165
designator U?
Parallel-Load 8-Bit Shift Register
footprint DIP-16
simulation model 74LS165 (SIMCODE)
pins: 1 SH/~{LD} (in), 2 CLK (in), 3 E (in), 4 F (in), 5 G (in), 6 H (in), 7 ~{Q}H (out), 8 GND (power) hidden to GND, 9 QH (out), 10 SER (in), 11 A (in), 12 B (in), 13 C (in), 14 D (in), 15 CLK INH (in), 16 VCC (power) hidden to VCC
1 alternate drawing of the same symbol

## 74LS166
designator U?
Parallel-Load 8-Bit Shift Register
footprint DIP-16
simulation model 74LS166 (SIMCODE)
pins: 1 SER (in), 2 A (in), 3 B (in), 4 C (in), 5 D (in), 6 CLK INH (in), 7 CLK (in), 8 GND (power) hidden to GND, 9 ~{CLR} (in), 10 E (in), 11 F (in), 12 G (in), 13 QH (out), 14 H (in), 15 SH/~{LD} (in), 16 VCC (power) hidden to VCC
1 alternate drawing of the same symbol

## 74LS168A
designator U?
Synchronous 4-Bit Up/Down Decade Counter
footprint DIP-16
simulation model 74LS168A (SIMCODE)
pins: 1 U/~{D} (in), 2 CLK (in), 3 A (in), 4 B (in), 5 C (in), 6 D (in), 7 ~{ENP} (in), 8 GND (power) hidden to GND, 9 ~{LD} (in), 10 ~{ENT} (in), 11 QD (out), 12 QC (out), 13 QB (out), 14 QA (out), 15 ~{RCO} (out), 16 VCC (power) hidden to VCC
1 alternate drawing of the same symbol

## 74LS169A
designator U?
Synchronous 4-Bit Up/Down Decade Counter
footprint DIP-16
simulation model 74LS169A (SIMCODE)
pins: 1 U/~{D} (in), 2 CLK (in), 3 A (in), 4 B (in), 5 C (in), 6 D (in), 7 ~{ENP} (in), 8 GND (power) hidden to GND, 9 ~{LD} (in), 10 ~{ENT} (in), 11 QD (out), 12 QC (out), 13 QB (out), 14 QA (out), 15 ~{RCO} (out), 16 VCC (power) hidden to VCC
1 alternate drawing of the same symbol

## 74LS173
designator U?
4-Bit D-Type Register with 3-State Outputs
footprint DIP-16
simulation model 74LS173 (SIMCODE)
pins: 1 M (in), 2 N (in), 3 1Q (hiz), 4 2Q (hiz), 5 3Q (hiz), 6 4Q (hiz), 7 CLK (in), 8 GND (power) hidden to GND, 9 ~{G}1 (in), 10 ~{G}2 (in), 11 4D (in), 12 3D (in), 13 2D (in), 14 1D (in), 15 CLR (in), 16 VCC (power) hidden to VCC
1 alternate drawing of the same symbol

## 74LS174
designator U?
Hex D-Type Flip-Flop with Clear
footprint DIP-16
simulation model 74LS174 (SIMCODE)
pins: 1 ~{CLR} (in), 2 1Q (out), 3 1D (in), 4 2D (in), 5 2Q (out), 6 3D (in), 7 3Q (out), 8 GND (power) hidden to GND, 9 CLK (in), 10 4Q (out), 11 4D (in), 12 5Q (out), 13 5D (in), 14 6D (in), 15 6Q (out), 16 VCC (power) hidden to VCC
1 alternate drawing of the same symbol

## 74LS175
designator U?
Quad D-Type Flip-Flop with Clear
footprint DIP-16
simulation model 74LS175 (SIMCODE)
pins: 1 ~{CLR} (in), 2 1Q (out), 3 1~{Q} (out), 4 1D (in), 5 2D (in), 6 2~{Q} (out), 7 2Q (out), 8 GND (power) hidden to GND, 9 CLK (in), 10 3Q (out), 11 3~{Q} (out), 12 3D (in), 13 4D (in), 14 4~{Q} (out), 15 4Q (out), 16 VCC (power) hidden to VCC
1 alternate drawing of the same symbol

## 74LS181
designator U?
Arithmetic Logic Unit/Function Generator
footprint DIP-24
simulation model 74LS181 (SIMCODE)
pins: 1 ~{B}0 (in), 2 ~{A}0 (in), 3 S3 (in), 4 S2 (in), 5 S1 (in), 6 S0 (in), 7 Cn (in), 8 M (in), 9 ~{F}0 (out), 10 ~{F}1 (out), 11 ~{F}2 (out), 12 GND (power) hidden to GND, 13 ~{F}3 (out), 14 A=B (oc), 15 ~{P} (out), 16 Cn+4 (out), 17 ~{G} (out), 18 ~{B}3 (in), 19 ~{A}3 (in), 20 ~{B}2 (in), 21 ~{A}2 (in), 22 ~{B}1 (in), 23 ~{A}1 (in), 24 VCC (power) hidden to VCC
1 alternate drawing of the same symbol

## 74LS190
designator U?
Synchronous 4-Bit Up/Down Decade Counter with Down/Up Mode Control
footprint DIP-16
simulation model 74LS190 (SIMCODE)
pins: 1 B (in), 2 QB (out), 3 QA (out), 4 ~{CTEN} (in), 5 D/~{U} (in), 6 QC (out), 7 QD (out), 8 GND (power) hidden to GND, 9 D (in), 10 C (in), 11 ~{LD} (in), 12 MAX/MIN (out), 13 ~{RCO} (out), 14 CLK (in), 15 A (in), 16 VCC (power) hidden to VCC
1 alternate drawing of the same symbol

## 74LS191
designator U?
Synchronous 4-Bit Up/Down Binary Counter with Down/Up Mode Control
footprint DIP-16
simulation model 74LS191 (SIMCODE)
pins: 1 B (in), 2 QB (out), 3 QA (out), 4 ~{CTEN} (in), 5 D/~{U} (in), 6 QC (out), 7 QD (out), 8 GND (power) hidden to GND, 9 D (in), 10 C (in), 11 ~{LD} (in), 12 MAX/MIN (out), 13 ~{RCO} (out), 14 CLK (in), 15 A (in), 16 VCC (power) hidden to VCC
1 alternate drawing of the same symbol

## 74LS192
designator U?
Synchronous 4-Bit Up/Down Decade Counter (Dual Clock with Clear)
footprint DIP-16
simulation model 74LS192 (SIMCODE)
pins: 1 B (in), 2 QB (out), 3 QA (out), 4 DWN (in), 5 UP (in), 6 QC (out), 7 QD (out), 8 GND (power) hidden to GND, 9 D (in), 10 C (in), 11 ~{LD} (in), 12 ~{CO} (out), 13 ~{BO} (out), 14 CLR (in), 15 A (in), 16 VCC (power) hidden to VCC
1 alternate drawing of the same symbol

## 74LS193
designator U?
Synchronous 4-Bit Up/Down Binary Counter (Dual Clock with Clear)
footprint DIP-16
simulation model 74LS193 (SIMCODE)
pins: 1 B (in), 2 QB (out), 3 QA (out), 4 DWN (in), 5 UP (in), 6 QC (out), 7 QD (out), 8 GND (power) hidden to GND, 9 D (in), 10 C (in), 11 ~{LD} (in), 12 ~{CO} (out), 13 ~{BO} (out), 14 CLR (in), 15 A (in), 16 VCC (power) hidden to VCC
1 alternate drawing of the same symbol

## 74LS194
designator U?
4-Bit Bidirectional Universal Shift Register
footprint DIP-16
simulation model 74LS194 (SIMCODE)
pins: 1 ~{CLR} (in), 2 SR SER (in), 3 A (in), 4 B (in), 5 C (in), 6 D (in), 7 SL SER (in), 8 GND (power) hidden to GND, 9 S0 (in), 10 S1 (in), 11 CLK (in), 12 QD (out), 13 QC (out), 14 QB (out), 15 QA (out), 16 VCC (power) hidden to VCC
1 alternate drawing of the same symbol

## 74LS195
designator U?
4-Bit Parallel-Access Shift Register
footprint DIP-16
simulation model 74LS195 (SIMCODE)
pins: 1 ~{CLR} (in), 2 J (in), 3 ~{K} (in), 4 A (in), 5 B (in), 6 C (in), 7 D (in), 8 GND (power) hidden to GND, 9 SH/~{LD} (in), 10 CLK (in), 11 ~{Q}D (out), 12 QD (out), 13 QC (out), 14 QB (out), 15 QA (out), 16 VCC (power) hidden to VCC
1 alternate drawing of the same symbol

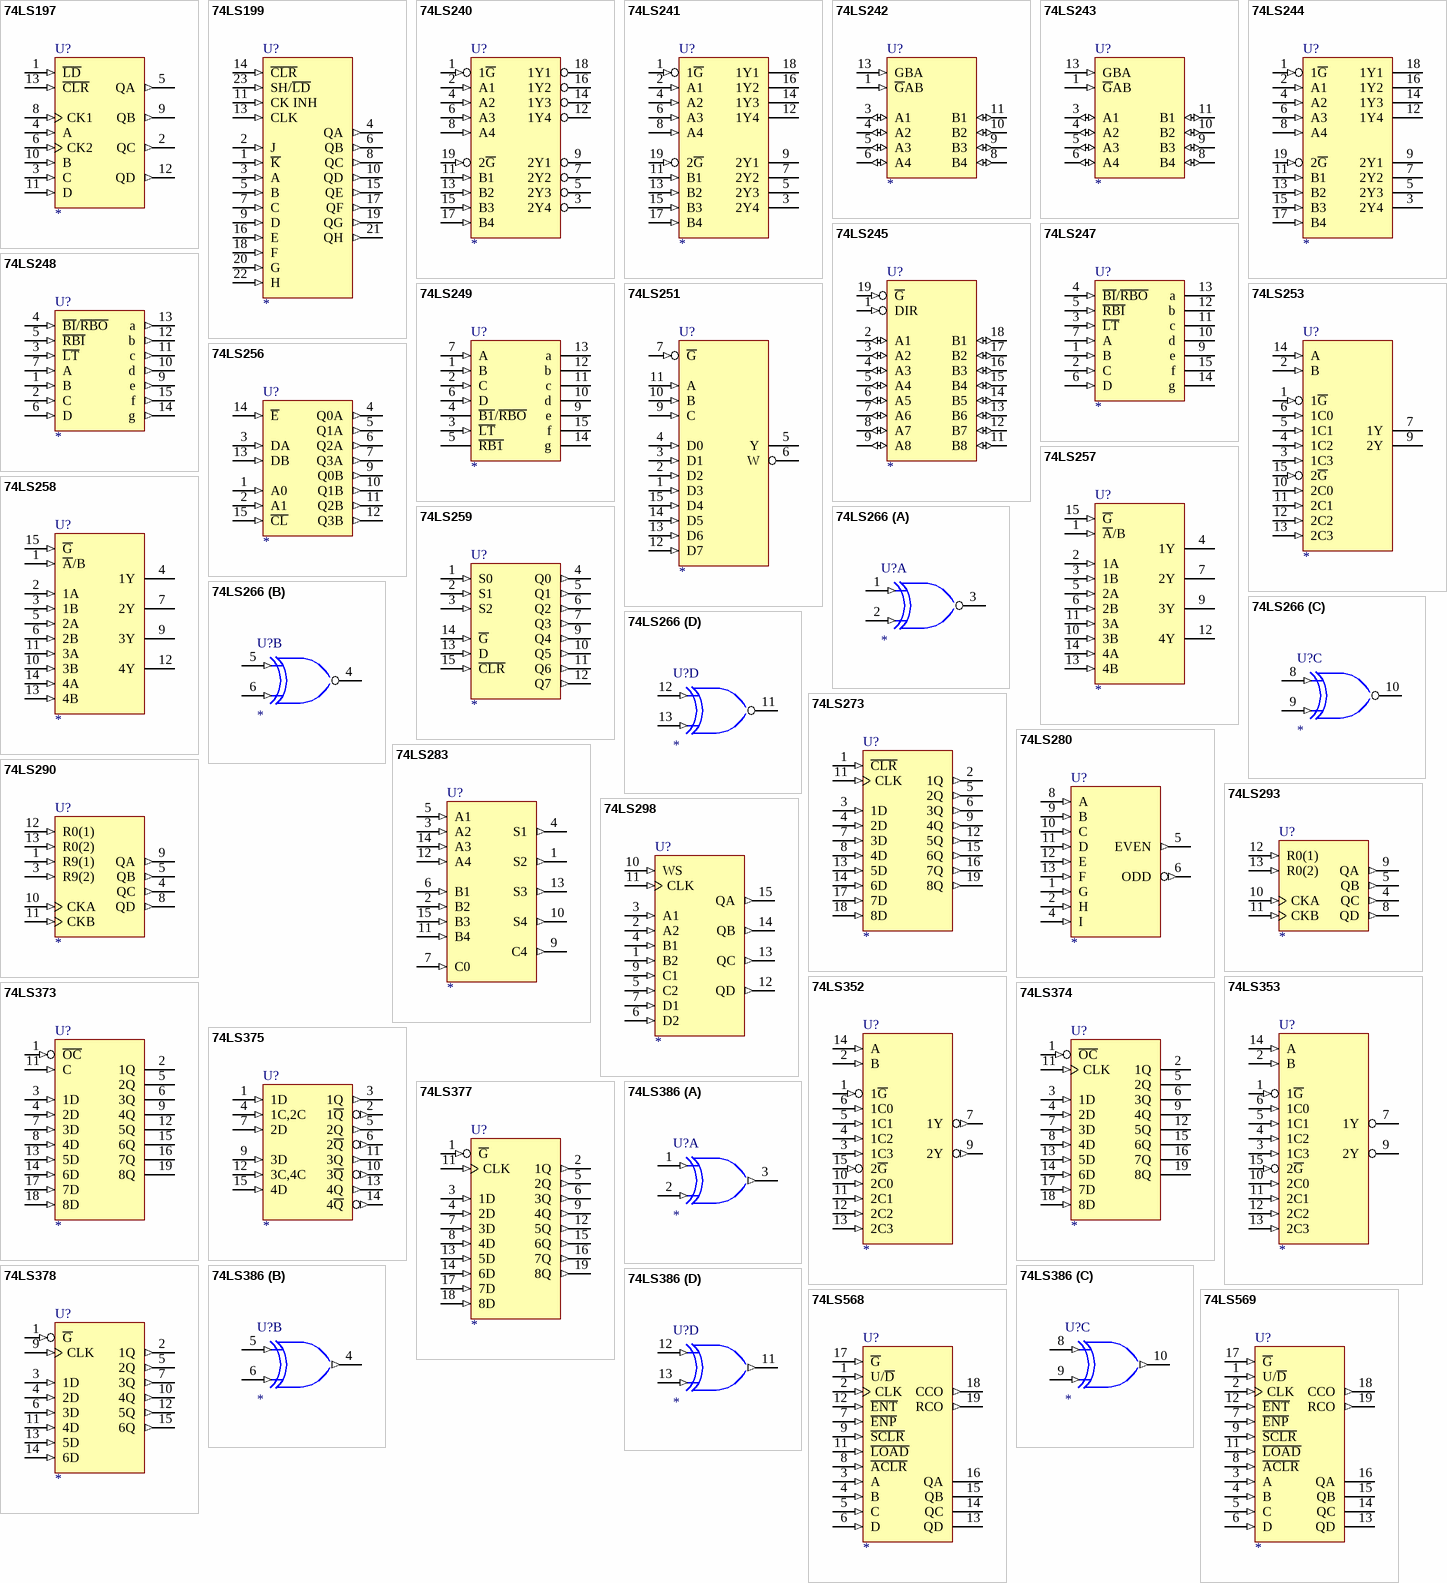
[diagram p28: symbols 74LS197 to 74LS569]

## 74LS197
designator U?
30-MHz Presettable Binary Counter/Latch
footprint DIP-14
simulation model 74LS197 (SIMCODE)
pins: 1 ~{LD} (in), 2 QC (out), 3 C (in), 4 A (in), 5 QA (out), 6 CK2 (in), 7 GND (power) hidden to GND, 8 CK1 (in), 9 QB (out), 10 B (in), 11 D (in), 12 QD (out), 13 ~{CLR} (in), 14 VCC (power) hidden to VCC
1 alternate drawing of the same symbol

## 74LS199
designator U?
8-Bit Shift Register
footprint DIP-24
simulation model 74LS199 (SIMCODE)
pins: 1 ~{K} (in), 2 J (in), 3 A (in), 4 QA (out), 5 B (in), 6 QB (out), 7 C (in), 8 QC (out), 9 D (in), 10 QD (out), 11 CK INH (in), 12 GND (power) hidden to GND, 13 CLK (in), 14 ~{CLR} (in), 15 QE (out), 16 E (in), 17 QF (out), 18 F (in), 19 QG (out), 20 G (in), 21 QH (out), 22 H (in), 23 SH/~{LD} (in), 24 VCC (power) hidden to VCC
1 alternate drawing of the same symbol

## 74LS240
designator U?
Octal Buffer and Line Driver with 3-State Output
footprint DIP-20
simulation model 74LS240 (SIMCODE)
pins: 1 1~{G} (in), 2 A1 (in), 3 2Y4 (hiz), 4 A2 (in), 5 2Y3 (hiz), 6 A3 (in), 7 2Y2 (hiz), 8 A4 (in), 9 2Y1 (hiz), 10 GND (power) hidden to GND, 11 B1 (in), 12 1Y4 (hiz), 13 B2 (in), 14 1Y3 (hiz), 15 B3 (in), 16 1Y2 (hiz), 17 B4 (in), 18 1Y1 (hiz), 19 2~{G} (in), 20 VCC (power) hidden to VCC
1 alternate drawing of the same symbol

## 74LS241
designator U?
Octal Buffer and Line Driver with 3-State Output
footprint DIP-20
simulation model 74LS241 (SIMCODE)
pins: 1 1~{G} (in), 2 A1 (in), 3 2Y4 (hiz), 4 A2 (in), 5 2Y3 (hiz), 6 A3 (in), 7 2Y2 (hiz), 8 A4 (in), 9 2Y1 (hiz), 10 GND (power) hidden to GND, 11 B1 (in), 12 1Y4 (hiz), 13 B2 (in), 14 1Y3 (hiz), 15 B3 (in), 16 1Y2 (hiz), 17 B4 (in), 18 1Y1 (hiz), 19 2~{G} (in), 20 VCC (power) hidden to VCC
1 alternate drawing of the same symbol

## 74LS242
designator U?
Quad Bus Transceiver
footprint DIP-14
simulation model 74LS242 (SIMCODE)
pins: 1 ~{G}AB (in), 3 A1 (io), 4 A2 (io), 5 A3 (io), 6 A4 (io), 7 GND (power) hidden to GND, 8 B4 (io), 9 B3 (io), 10 B2 (io), 11 B1 (io), 13 GBA (in), 14 VCC (power) hidden to VCC
1 alternate drawing of the same symbol

## 74LS243
designator U?
Quad Bus Transceiver
footprint DIP-14
simulation model 74LS243 (SIMCODE)
pins: 1 ~{G}AB (in), 3 A1 (io), 4 A2 (io), 5 A3 (io), 6 A4 (io), 7 GND (power) hidden to GND, 8 B4 (io), 9 B3 (io), 10 B2 (io), 11 B1 (io), 13 GBA (in), 14 VCC (power) hidden to VCC
1 alternate drawing of the same symbol

## 74LS244
designator U?
Octal Buffer and Line Driver with 3-State Output
footprint DIP-20
simulation model 74LS244 (SIMCODE)
pins: 1 1~{G} (in), 2 A1 (in), 3 2Y4 (hiz), 4 A2 (in), 5 2Y3 (hiz), 6 A3 (in), 7 2Y2 (hiz), 8 A4 (in), 9 2Y1 (hiz), 10 GND (power) hidden to GND, 11 B1 (in), 12 1Y4 (hiz), 13 B2 (in), 14 1Y3 (hiz), 15 B3 (in), 16 1Y2 (hiz), 17 B4 (in), 18 1Y1 (hiz), 19 2~{G} (in), 20 VCC (power) hidden to VCC
1 alternate drawing of the same symbol

## 74LS245
designator U?
Octal Bus Transceiver with 3-State Output
footprint DIP-20
simulation model 74LS245 (SIMCODE)
pins: 1 DIR (in), 2 A1 (io), 3 A2 (io), 4 A3 (io), 5 A4 (io), 6 A5 (io), 7 A6 (io), 8 A7 (io), 9 A8 (io), 10 GND (power) hidden to GND, 11 B8 (io), 12 B7 (io), 13 B6 (io), 14 B5 (io), 15 B4 (io), 16 B3 (io), 17 B2 (io), 18 B1 (io), 19 ~{G} (in), 20 VCC (power) hidden to VCC
1 alternate drawing of the same symbol

## 74LS247
designator U?
BCD-to-Seven Segment Decoder/Driver
footprint DIP-16
simulation model 74LS247 (SIMCODE)
pins: 1 B (in), 2 C (in), 3 ~{LT} (in), 4 ~{BI}/~{RBO} (in), 5 ~{RBI} (in), 6 D (in), 7 A (in), 8 GND (power) hidden to GND, 9 e (oc), 10 d (oc), 11 c (oc), 12 b (oc), 13 a (oc), 14 g (oc), 15 f (oc), 16 VCC (power) hidden to VCC
1 alternate drawing of the same symbol

## 74LS248
designator U?
BCD-to-Seven Segment Decoder/Driver
footprint DIP-16
simulation model 74LS248 (SIMCODE)
pins: 1 B (in), 2 C (in), 3 ~{LT} (in), 4 ~{BI}/~{RBO} (in), 5 ~{RBI} (in), 6 D (in), 7 A (in), 8 GND (power) hidden to GND, 9 e (out), 10 d (out), 11 c (out), 12 b (out), 13 a (out), 14 g (out), 15 f (out), 16 VCC (power) hidden to VCC
1 alternate drawing of the same symbol

## 74LS249
designator U?
BCD-to-Seven Segment Decoder with Open-Collector Outputs
footprint DIP-16
simulation model 74LS249 (SIMCODE)
pins: 1 B (in), 2 C (in), 3 ~{LT} (in), 4 ~{B1}/~{RBO}, 5 ~{RB1}, 6 D (in), 7 A (in), 8 GND (power) hidden to GND, 9 e (oc), 10 d (oc), 11 c (oc), 12 b (oc), 13 a (oc), 14 g (oc), 15 f (oc), 16 VCC (power) hidden to VCC

## 74LS251
designator U?
1-of-8 Data Selectors/Multiplexers with 3-State Output
footprint DIP-16
simulation model 74LS251 (SIMCODE)
pins: 1 D3 (in), 2 D2 (in), 3 D1 (in), 4 D0 (in), 5 Y (hiz), 6 W (hiz), 7 ~{G} (in), 8 GND (power) hidden to GND, 9 C (in), 10 B (in), 11 A (in), 12 D7 (in), 13 D6 (in), 14 D5 (in), 15 D4 (in), 16 VCC (power) hidden to VCC
1 alternate drawing of the same symbol

## 74LS253
designator U?
Dual 4-Line to 1-Line Data Selector/Multiplexer with 3-State Output
footprint DIP-16
simulation model 74LS253 (SIMCODE)
pins: 1 1~{G} (in), 2 B (in), 3 1C3 (in), 4 1C2 (in), 5 1C1 (in), 6 1C0 (in), 7 1Y (hiz), 8 GND (power) hidden to GND, 9 2Y (hiz), 10 2C0 (in), 11 2C1 (in), 12 2C2 (in), 13 2C3 (in), 14 A (in), 15 2~{G} (in), 16 VCC (power) hidden to VCC
1 alternate drawing of the same symbol

## 74LS256
designator U?
Dual 4-Bit Addressable Latch
footprint DIP-16
simulation model 74LS256 (SIMCODE)
pins: 1 A0 (in), 2 A1 (in), 3 DA (in), 4 Q0A (out), 5 Q1A (out), 6 Q2A (out), 7 Q3A (out), 8 GND (power) hidden to GND, 9 Q0B (out), 10 Q1B (out), 11 Q2B (out), 12 Q3B (out), 13 DB (in), 14 ~{E} (in), 15 ~{CL} (in), 16 VCC (power) hidden to VCC

## 74LS257
designator U?
Quad 2-Line to 1-Line Data/Selector/Multiplexer with 3-State Output
footprint DIP-16
simulation model 74LS257 (SIMCODE)
pins: 1 ~{A}/B (in), 2 1A (in), 3 1B (in), 4 1Y (hiz), 5 2A (in), 6 2B (in), 7 2Y (hiz), 8 GND (power) hidden to GND, 9 3Y (hiz), 10 3B (in), 11 3A (in), 12 4Y (hiz), 13 4B (in), 14 4A (in), 15 ~{G} (in), 16 VCC (power) hidden to VCC
1 alternate drawing of the same symbol

## 74LS258
designator U?
Quad 2-Line to 1-Line Data/Selector/Multiplexer with 3-State Output
footprint DIP-16
simulation model 74LS258 (SIMCODE)
pins: 1 ~{A}/B (in), 2 1A (in), 3 1B (in), 4 1Y (hiz), 5 2A (in), 6 2B (in), 7 2Y (hiz), 8 GND (power) hidden to GND, 9 3Y (hiz), 10 3B (in), 11 3A (in), 12 4Y (hiz), 13 4B (in), 14 4A (in), 15 ~{G} (in), 16 VCC (power) hidden to VCC
1 alternate drawing of the same symbol

## 74LS259
designator U?
8-Bit Addressable Latch
footprint DIP-16
simulation model 74LS259 (SIMCODE)
pins: 1 S0 (in), 2 S1 (in), 3 S2 (in), 4 Q0 (out), 5 Q1 (out), 6 Q2 (out), 7 Q3 (out), 8 GND (power) hidden to GND, 9 Q4 (out), 10 Q5 (out), 11 Q6 (out), 12 Q7 (out), 13 D (in), 14 ~{G} (in), 15 ~{CLR} (in), 16 VCC (power) hidden to VCC
1 alternate drawing of the same symbol

## 74LS266
designator U?
Quad Exclusive-NOR Gate with Open-Collector Output
footprint DIP-14
simulation model 74LS266 (SIMCODE)
part A pins: 1 A (in), 2 B (in), 3 Y (oc), 7 GND (power) hidden to GND, 14 VDD (power) hidden to VDD
part B pins: 4 Y (oc), 5 A (in), 6 B (in), 7 GND (power) hidden to GND, 14 VDD (power) hidden to VDD
part C pins: 7 GND (power) hidden to GND, 8 A (in), 9 B (in), 10 Y (oc), 14 VDD (power) hidden to VDD
part D pins: 7 GND (power) hidden to GND, 11 Y (oc), 12 A (in), 13 B (in), 14 VDD (power) hidden to VDD
1 alternate drawing of the same symbol

## 74LS273
designator U?
Octal D-Type Flip-Flop with Clear
footprint DIP-20
simulation model 74LS273 (SIMCODE)
pins: 1 ~{CLR} (in), 2 1Q (out), 3 1D (in), 4 2D (in), 5 2Q (out), 6 3Q (out), 7 3D (in), 8 4D (in), 9 4Q (out), 10 GND (power) hidden to GND, 11 CLK (in), 12 5Q (out), 13 5D (in), 14 6D (in), 15 6Q (out), 16 7Q (out), 17 7D (in), 18 8D (in), 19 8Q (out), 20 VCC (power) hidden to VCC
1 alternate drawing of the same symbol

## 74LS280
designator U?
9-Bit Odd/Even Parity Generator/Checker
footprint DIP-14
simulation model 74LS280 (SIMCODE)
pins: 1 G (in), 2 H (in), 4 I (in), 5 EVEN (out), 6 ODD (out), 7 GND (power) hidden to GND, 8 A (in), 9 B (in), 10 C (in), 11 D (in), 12 E (in), 13 F (in), 14 VCC (power) hidden to VCC
1 alternate drawing of the same symbol

## 74LS283
designator U?
4-Bit Binary Full Adder with Fast Carry
footprint DIP-16
simulation model 74LS283 (SIMCODE)
pins: 1 S2 (out), 2 B2 (in), 3 A2 (in), 4 S1 (out), 5 A1 (in), 6 B1 (in), 7 C0 (in), 8 GND (power) hidden to GND, 9 C4 (out), 10 S4 (out), 11 B4 (in), 12 A4 (in), 13 S3 (out), 14 A3 (in), 15 B3 (in), 16 VCC (power) hidden to VCC
1 alternate drawing of the same symbol